# Altium schematic symbol library Sch_GB_lib.SchLib: 489 symbols (part 2 of 5)
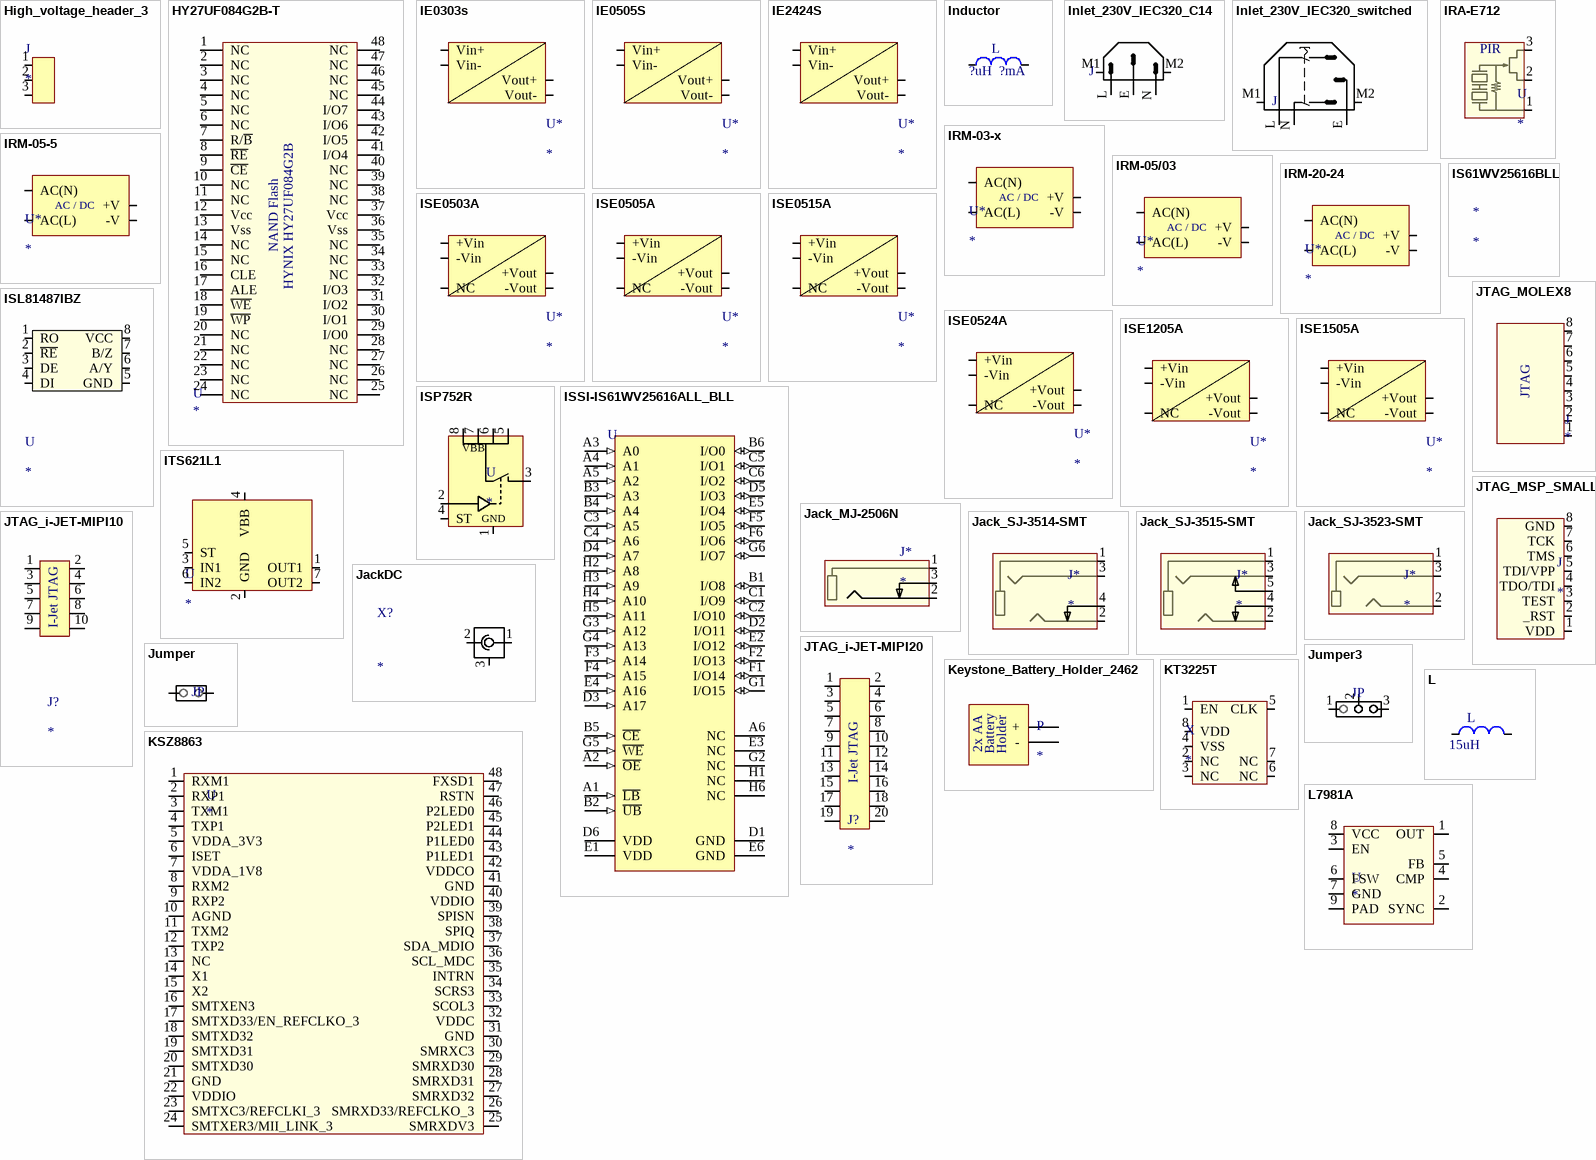
[diagram p18: symbols High_voltage_header_3 to L7981A]

## ITS621L1
designator U
Farnell ref: 1426200; Digikey ref: ITS621L1-ND
footprint PG_TO220_7
pins: 1 OUT1, 2 GND, 3 IN1, 4 VBB, 5 ST, 6 IN2, 7 OUT2

## Jack_MJ-2506N
designator J*
Digikey ref: CP-2506N-ND
footprint Jack_MJ-2506N (2.5mm AUDIO JACK-MONO)
pins: 1 +, 2 +, 3 +

## Jack_SJ-3514-SMT
designator J*
Digikey ref: CP1-3514SJCT-ND
footprint JACK_SJ-3515-SMT (CUI Inc Jack Stereo 3.5mm, black, 5 pos, switch integrated)
pins: 1 +, 2 +, 3 +, 4 +

## Jack_SJ-3515-SMT
designator J*
Digikey ref: CP1-3515SJCT-ND
footprint JACK_SJ-3515-SMT (CUI Inc Jack Stereo 3.5mm, black, 5 pos, switch integrated)
pins: 1 +, 2 +, 3 +, 4 +, 5 +

## Jack_SJ-3523-SMT
designator J*
Digikey ref: CP-3523SJCT-ND
footprint JACK_SJ-3523-SMT (CUI Inc Jack Stereo 3.5mm, black)
pins: 1 +, 2 +, 3 +

## JackDC
designator X?
Farnell ref: 1608728
footprint JackDCpcb
pins: 1 +, 2 -, 3 M

## JTAG_i-JET-MIPI10
designator J?
Farnell ref: 1667759; Digikey ref: SAM1161-05-ND
footprint FTSH-105-0x-x-DV (SAMTEC SMT micro Header pitch 1.27mm, 10 pins, 2 rows)
pins: 1 VTref, 2 SWDIO/TMS, 3 GND, 4 SWCLK/TCK, 5 GND, 6 SWO/TDO, 7 --, 8 TDI, 9 GND, 10 ~{RST}
text: I-Jet JTAG

## JTAG_i-JET-MIPI20
designator J?
Digikey ref: SAM1161-10-ND
footprint FTSH-110-0x-x-DV (SAMTEC SMT micro Header pitch 1.27mm, 20 pins, 2 rows)
pins: 1 VTref, 2 SWDIO/TMS, 3 GND, 4 SWCLK/TCK, 5 GND, 6 SWO/TDO, 7 --, 8 TDI, 9 GND, 10 ~{RST}, 11 ~{RST}, 12 ~{RST}, 13 ~{RST}, 14 ~{RST}, 15 ~{RST}, 16 ~{RST}, 17 ~{RST}, 18 ~{RST}, 19 ~{RST}, 20 ~{RST}
text: I-Jet JTAG

## JTAG_MOLEX8
designator J
Farnell ref: 1012258
footprint JTAG_MSP_SMALL_TROUGH_HOLE (mini JTAG, vertical soldering)
pins: 1, 2, 3, 4, 5, 6, 7, 8
text: JTAG

## JTAG_MSP_SMALL
designator J
MOLEX 53047-0810 Embase droite 8 voies; Farnell ref: 1012258
footprint JTAG_MSP_SMALL (place on the side of the board)
pins: 1 VDD, 2 _RST, 3 TEST, 4 TDO/TDI, 5 TDI/VPP, 6 TMS, 7 TCK, 8 GND

## Jumper
designator JP  (value not drawn)
Farnell ref: 1654800; Digikey ref: 609-2217-ND
footprint jumper2.54mm
footprint jumper2.54mm_solderedwire
pins: 1, 2

## Jumper3
designator JP  (value not drawn)
Farnell ref: 1654800; Digikey ref: 609-2217-ND
footprint jumper3_2.54mm (3 pins jumper)
pins: 1, 2, 3

## Keystone_Battery_Holder_2462
designator P
Digikey ref: 2462K-ND; Mouser ref: 534-2462; Farnell ref: 1702630
footprint Keystone_2462 (2xAA battery holder with through hole mounting pins)
pins: 1 -, 2 +
text: 2x AA; Battery; Holder

## KSZ8863
designator U
Digikey ref: 576-3577-ND; Farnell ref: 1864784
footprint LQFP48 (Thin QFP, 48-Leads, Body 7x7mm, Pitch 0.5mm, IPC Medium Density)
pins: 1 RXM1, 2 RXP1, 3 TXM1, 4 TXP1, 5 VDDA_3V3, 6 ISET, 7 VDDA_1V8, 8 RXM2, 9 RXP2, 10 AGND, 11 TXM2, 12 TXP2, 13 NC, 14 X1, 15 X2, 16 SMTXEN3, 17 SMTXD33/EN_REFCLKO_3, 18 SMTXD32, 19 SMTXD31, 20 SMTXD30, 21 GND, 22 VDDIO, 23 SMTXC3/REFCLKI_3, 24 SMTXER3/MII_LINK_3, 25 SMRXDV3, 26 SMRXD33/REFCLKO_3, 27 SMRXD32, 28 SMRXD31, 29 SMRXD30, 30 SMRXC3, 31 GND, 32 VDDC, 33 SCOL3, 34 SCRS3, 35 INTRN, 36 SCL_MDC, 37 SDA_MDIO, 38 SPIQ, 39 SPISN, 40 VDDIO, 41 GND, 42 VDDCO, 43 P1LED1, 44 P1LED0, 45 P2LED1, 46 P2LED0, 47 RSTN, 48 FXSD1

## KT3225T
designator X
Digikey ref: 1253-1030-1-ND; Farnell ref: *
footprint KT3225T (TCXO, case 3.2x2.5x1mm)
pins: 1 EN (in), 2 NC, 3 NC, 4 VSS, 5 CLK (out), 6 NC, 7 NC, 8 VDD

## L
designator L  value 15uH  (hidden comment: *)
Farnell ref: 0000000
footprint 1812 (3.2x4.5mm 1812 package)
footprint 0402 (SMD 0402 package, 0.6x1.5mm)
footprint 0603c (standard 0603 FP)
footprint 0805 (standard 0805 FP)
footprint 1206 (1206 1.6x3.2mm)
pins: 1, 2

## L7981A
designator U
Digikey ref: 497-10722-1-ND
footprint HSOP8 (SOIC, 8-Leads+PAD, Body 4.9x3.8mm, Pitch 1.27mm, IPC Medium Density)
pins: 1 OUT, 2 SYNC, 3 EN, 4 CMP, 5 FB, 6 FSW, 7 GND, 8 VCC, 9 PAD

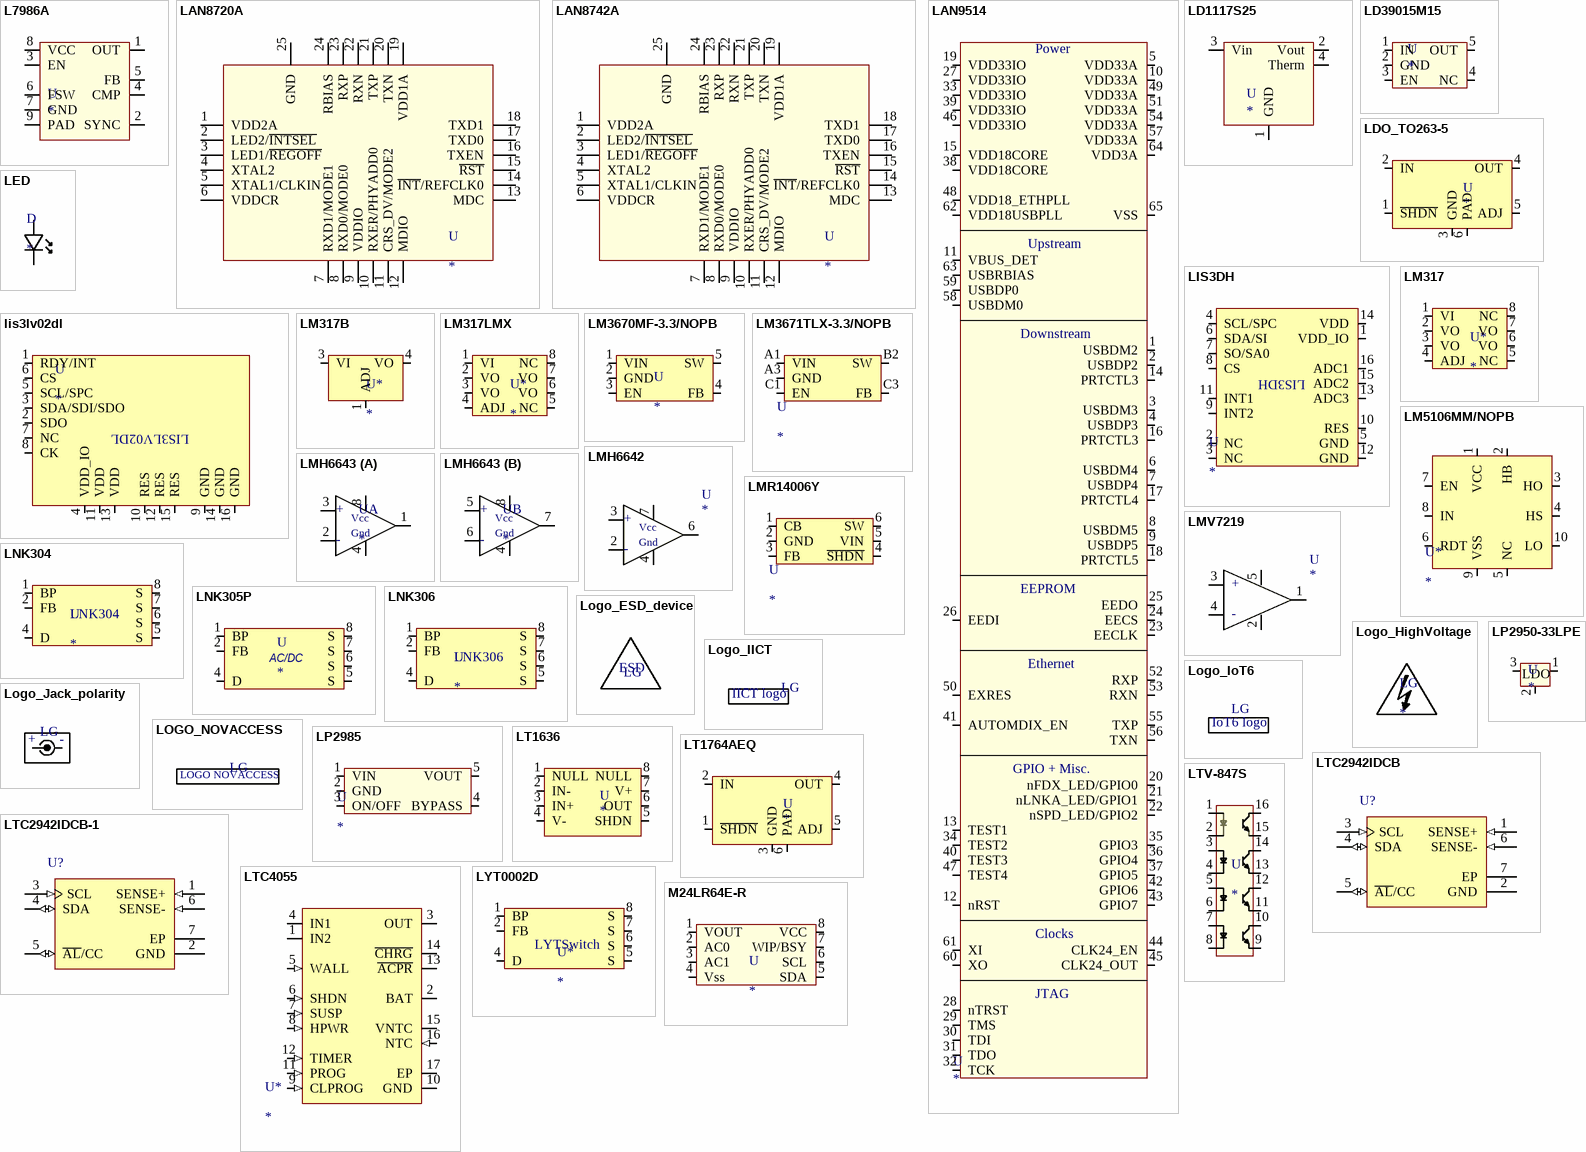
[diagram p5: symbols L7986A to M24LR64E-R]

## L7986A
designator U
Buck Switching Regulator IC Positive Adjustable 0.6V 1 Output 3A 8-SOIC, 40V; Manufacturer: STMicroelectronics; Manufacturer PartNum: L7986A; Digikey ref: 497-14791-5-ND
footprint HSOP8 (SOIC, 8-Leads+PAD, Body 4.9x3.8mm, Pitch 1.27mm, IPC Medium Density)
pins: 1 OUT, 2 SYNC, 3 EN, 4 CMP, 5 FB, 6 FSW, 7 GND, 8 VCC, 9 PAD

## LAN8720A
designator U
Digikey ref: 638-1080-ND; Farnell ref: 2292577
footprint QFN24_V (QFN 24 pins with thermal vias, 4x4mm, 0.5mm)
pins: 1 VDD2A (power), 2 LED2/~{INTSEL}, 3 LED1/~{REGOFF}, 4 XTAL2, 5 XTAL1/CLKIN, 6 VDDCR (power), 7 RXD1/MODE1, 8 RXD0/MODE0, 9 VDDIO, 10 RXER/PHYADD0, 11 CRS_DV/MODE2, 12 MDIO, 13 MDC, 14 ~{INT}/REFCLK0, 15 ~{RST}, 16 TXEN, 17 TXD0, 18 TXD1, 19 VDD1A (power), 20 TXN, 21 TXP, 22 RXN, 23 RXP, 24 RBIAS, 25 GND

## LAN8742A
designator U
Manufacturer: Microchip; Manufacturer PartNum: LAN8742A
footprint QFN24_V (QFN 24 pins with thermal vias, 4x4mm, 0.5mm)
pins: 1 VDD2A (power), 2 LED2/~{INTSEL}, 3 LED1/~{REGOFF}, 4 XTAL2, 5 XTAL1/CLKIN, 6 VDDCR (power), 7 RXD1/MODE1, 8 RXD0/MODE0, 9 VDDIO, 10 RXER/PHYADD0, 11 CRS_DV/MODE2, 12 MDIO, 13 MDC, 14 ~{INT}/REFCLK0, 15 ~{RST}, 16 TXEN, 17 TXD0, 18 TXD1, 19 VDD1A (power), 20 TXN, 21 TXP, 22 RXN, 23 RXP, 24 RBIAS, 25 GND

## LAN9514
designator U
Digikey ref: 638-1087-ND     NON STOCK; Mouser ref: 886-LAN9514-JZX; Farnell ref: No reference found
footprint QFN64 (QFN, 64-Leads, Body 9x9mm, Pitch 0.5mm, Thermal Pad 7.5x7.5mm, IPC High Density)
pins: 1 USBDM2, 2 USBDP2, 3 USBDM3, 4 USBDP3, 5 VDD33A, 6 USBDM4, 7 USBDP4, 8 USBDM5, 9 USBDP5, 10 VDD33A, 11 VBUS_DET, 12 nRST, 13 TEST1, 14 PRTCTL3, 15 VDD18CORE, 16 PRTCTL3, 17 PRTCTL4, 18 PRTCTL5, 19 VDD33IO, 20 nFDX_LED/GPIO0, 21 nLNKA_LED/GPIO1, 22 nSPD_LED/GPIO2, 23 EECLK, 24 EECS, 25 EEDO, 26 EEDI, 27 VDD33IO, 28 nTRST, 29 TMS, 30 TDI, 31 TDO, 32 TCK, 33 VDD33IO, 34 TEST2, 35 GPIO3, 36 GPIO4, 37 GPIO5, 38 VDD18CORE, 39 VDD33IO, 40 TEST3, 41 AUTOMDIX_EN, 42 GPIO6, 43 GPIO7, 44 CLK24_EN, 45 CLK24_OUT, 46 VDD33IO, 47 TEST4, 48 VDD18_ETHPLL, 49 VDD33A, 50 EXRES, 51 VDD33A, 52 RXP, 53 RXN, 54 VDD33A, 55 TXP, 56 TXN, 57 VDD33A, 58 USBDM0, 59 USBDP0, 60 XO, 61 XI, 62 VDD18USBPLL, 63 USBRBIAS, 64 VDD3A, 65 VSS
text: Power; Upstream; Downstream; EEPROM; Ethernet; GPIO + Misc.; Clocks; JTAG

## LD1117S25
designator U
Digikey ref: 497-7309-2-ND; Farnell ref: 1132000
footprint SOT223-4M (SOT223, 4-Leads, Body 6.5x3.5mm, Pitch 2.3mm, Lead Span 7mm, IPC Low Density)
pins: 1 GND, 2 Vout, 3 Vin, 4 Therm

## LD39015M15
designator U
Digikey ref: 497-6976-1-ND
footprint SOT23-5 (SOT23, 5 pins, pitch 0.95mm, case 3x1.6mm)
pins: 1 IN, 2 GND, 3 EN, 4 NC, 5 OUT

## LDO_TO263-5
designator U
LDO IC Positive, ADJ,  1.21..1.26 V ~ 20 V 3A D2PAK-5; Manufacturer PartNum: NCP59302DSADJR4G; Manufacturer: ON Semi; Cin,Cout: 47uF; Alternate P/N (preferred): Linear Technology LT1764AEQ#PBF; Alternate P/N (2): ST Micro  LD29300P2MTR; Vref: 1.240; Digikey ref: NCP59302DSADJR4GOSCT-ND
footprint D2PAK_5 (D2PAK TO-263-5)
pins: 1 ~{SHDN} "Positive Current Sense Input and Power Supply. Connect to the load/charger side of the sense resistor. VSENSE+ operating range is 2.7V to 5.5V.", 2 IN "Positive Current Sense Input and Power Supply. Connect to the load/charger side of the sense resistor. VSENSE+ operating range is 2.7V to 5.5V.", 3 GND "Positive Current Sense Input and Power Supply. Connect to the load/charger side of the sense resistor. VSENSE+ operating range is 2.7V to 5.5V.", 4 OUT "Positive Current Sense Input and Power Supply. Connect to the load/charger side of the sense resistor. VSENSE+ operating range is 2.7V to 5.5V.", 5 ADJ "Positive Current Sense Input and Power Supply. Connect to the load/charger side of the sense resistor. VSENSE+ operating range is 2.7V to 5.5V.", 6 PAD "Positive Current Sense Input and Power Supply. Connect to the load/charger side of the sense resistor. VSENSE+ operating range is 2.7V to 5.5V."

## LED
designator D
standard LED
footprint LED3mm
footprint LED5MM
pins: 1, 2

## LIS3DH
designator U
Digikey ref: 497-10613-1-ND; Farnell ref: 1872923
footprint 16-LGA (16-LGA ST MEMS inertial sensor case 3x3x1mm)
pins: 1 VDD_IO, 2 NC, 3 NC, 4 SCL/SPC, 5 GND, 6 SDA/SI, 7 SO/SA0, 8 CS, 9 INT2, 10 RES, 11 INT1, 12 GND, 13 ADC3, 14 VDD, 15 ADC2, 16 ADC1

## lis3lv02dl
designator U
LIS3LV02DL; Farnell ref: 1220902; price: 13.57 Euro/pce; datum: 21.05.2010
footprint LGA16 (LGA16 ST MEMS inertial sensor)
pins: 1 RDY/INT, 2 SDO, 3 SDA/SDI/SDO, 4 VDD_IO, 5 SCL/SPC, 6 CS, 7 NC, 8 CK, 9 GND, 10 RES, 11 VDD, 12 RES, 13 VDD, 14 GND, 15 RES, 16 GND

## LM317
designator U*
IC REG LIN POS ADJ 100MA 8SOIC; Manufacturer: Texas Instruments; Manufacturer PartNum: LM317LIDR; Digikey ref: 296-20678-1-ND; Manufacturer PN 2: ON Semi LM317LBDG
footprint soic8 (soic8 CMS 8 leads, pitch 1.27mm)
pins: 1 VI, 2 VO, 3 VO, 4 ADJ, 5 NC, 6 VO, 7 VO, 8 NC

## LM317B
designator U*
Digikey ref: LM317BD2TGOS-ND
footprint D2PAK (DPAK Single Guage)
pins: 1 ADJ, 3 VI, 4 VO

## LM317LMX
designator U*
Manufacturer: Texas Instruments; Manufacturer PartNum: LM317LMX/NOPB; Digikey ref: LM317LMX/NOPBCT-ND
footprint soic8 (soic8 CMS 8 leads, pitch 1.27mm)
pins: 1 VI, 2 VO, 3 VO, 4 ADJ, 5 NC, 6 VO, 7 VO, 8 NC

## LM3670MF-3.3/NOPB
designator U
Digikey ref: LM3670MF-3.3/NOPBCT-ND; Farnell ref: 1685757
footprint SOT23-5 (SOT23, 5 pins, pitch 0.95mm, case 3x1.6mm)
pins: 1 VIN, 2 GND, 3 EN, 4 FB, 5 SW

## LM3671TLX-3.3/NOPB
designator U
Farnell ref: *; Digikey ref: LM3671TLX-3.3/NOPBCT-ND
footprint DSBGA (Micro SMD, 5-Leads, Body 1.39x1.06mm, Pitch 0.5mm, NSC Recommended)
pins: A1 VIN, A3 GND, B2 SW, C1 EN, C3 FB

## LM5106MM/NOPB
designator U*
Digikey ref: LM5106MM/NOPBCT-ND
footprint VSSOP10 (VSSOP-10, case 3.1x3.1mm, pitch 0.5mm)
pins: 1 VCC, 2 HB, 3 HO, 4 HS, 5 NC, 6 RDT, 7 EN, 8 IN, 9 VSS, 10 LO

## LMH6642
designator U
Farnell ref: 9490167
footprint D008_L (8-Pin Small Outline Integrated Circuit 1.27 mm Pitch, IPC High Density)
pins: 2, 3, 4, 6, 7
text: +; Vcc; Gnd; -

## LMH6643
designator U
DUAL AOP, 130Mhz; Farnell ref: 1286941
part A pins: 1, 2, 3, 4, 8
part B pins: 4, 5, 6, 7, 8
part A text: +; Vcc; Gnd; -
part B text: +; Vcc; Gnd; -

## LMR14006Y
designator U
IC REG BUCK ADJ 0.6A 6SOT; Manufacturer: Texas Instruments; Manufacturer PartNum: LMR14006YDDCR; replacement part (passives adjustment needed): MPS MP2456GJ-P; Farnell ref: *; Digikey ref: 296-44319-1-ND
footprint SOT23-6 (SOT23, 6 leads, pitch 0.95, 1.55x2.9mm)
pins: 1 CB, 2 GND, 3 FB, 4 ~{SHDN}, 5 VIN, 6 SW

## LMV7219
designator U
Farnell ref: 9778764RL
footprint SOT23-5 (SOT23, 5 pins, pitch 0.95mm, case 3x1.6mm)
pins: 1, 2, 3, 4, 5
text: +; -

## LNK304
designator U
IC OFFLINE SWIT OCP 8SOP; Manufacturer PartNum: LNK304DG-TL; Manufacturer: Power Integrations; Digikey ref: 596-1237-1-ND
footprint SO-8CL (SOIC, 8-Leads, Body 4.9x3.9mm, Pitch 1.27mm, IPC Low Density)
pins: 1 BP, 2 FB, 4 D, 5 S, 6 S, 7 S, 8 S

## LNK305P
designator U
prix: 1.42 Euro/1pce; Farnell ref: 1448223
footprint DIL8 (DIP; 8 Leads; Row Spacing 7.62 mm; Pitch 2.54 mm)
pins: 1 BP, 2 FB, 4 D, 5 S, 6 S, 7 S, 8 S
text: AC/DC

## LNK306
designator U
Prix: 1.51 Euro/1pce; Farnell ref: 1448229
footprint SO-8C_L (Footprint not found)
pins: 1 BP, 2 FB, 4 D, 5 S, 6 S, 7 S, 8 S

## Logo_ESD_device
designator LG  (value not drawn)  (no BOM)
footprint LOGO_ESD_DEV (don't touch device, ESD risk)
text: ESD

## Logo_HighVoltage
designator LG  (no BOM)
footprint logo_hv2
footprint logo_hv1

## Logo_IICT
designator LG  (value not drawn)  (no BOM)
footprint LOGO_IICT (IICT logo)
text: IICT logo

## Logo_IoT6
designator LG  (value not drawn)  (no BOM)
footprint LOGO_IOT6
text: IoT6 logo

## Logo_Jack_polarity
designator LG  (value not drawn)  (no BOM)
footprint LOGO_JACK_INPUT (JACK input polarity)
footprint LOGO_JACK_INPUT_copper
text: +; -

## LOGO_NOVACCESS
designator LG  (value not drawn)  (no BOM)
footprint LOGO_NOVACCESS
footprint LOGO_NOVACCESS_2
footprint LOGO_NOVACCESS_TOP
footprint LOGO_NOVACCESS_TOP_2
text: LOGO NOVACCESS

## LP2950-33LPE
designator U
Farnell ref: 1755063; Digikey ref: 296-31455-1-ND
footprint TO92 (TO-92 3 pin DIP vertical package)
pins: 1 OUT, 2 GND, 3 IN
text: LDO

## LP2985
designator U
IC REG LDO 10V 0.15A SOT23-5; Manufacturer: Texas Instruments; Manufacturer PartNum: LP2985-10DBVR; Rated volatage: 6V; Digikey ref: 296-24263-1-ND; Farnell ref: 1578407
footprint SOT23-5
pins: 1 VIN, 2 GND, 3 ON/OFF, 4 BYPASS, 5 VOUT

## LT1636
designator U
IC OPAMP GP 220KHZ RRO 8SO SHTDN; Manufacturer PartNum: LT1636CS8#PBF; Manufacturer: Linear Technology; Digikey ref: LT1636CS8#PBF-ND
footprint soic8 (soic8 CMS 8 leads, pitch 1.27mm)
pins: 1 NULL "Positive Current Sense Input and Power Supply. Connect to the load/charger side of the sense resistor. VSENSE+ operating range is 2.7V to 5.5V.", 2 IN- "Positive Current Sense Input and Power Supply. Connect to the load/charger side of the sense resistor. VSENSE+ operating range is 2.7V to 5.5V.", 3 IN+ "Positive Current Sense Input and Power Supply. Connect to the load/charger side of the sense resistor. VSENSE+ operating range is 2.7V to 5.5V.", 4 V- "Positive Current Sense Input and Power Supply. Connect to the load/charger side of the sense resistor. VSENSE+ operating range is 2.7V to 5.5V.", 5 SHDN "Positive Current Sense Input and Power Supply. Connect to the load/charger side of the sense resistor. VSENSE+ operating range is 2.7V to 5.5V.", 6 OUT "Positive Current Sense Input and Power Supply. Connect to the load/charger side of the sense resistor. VSENSE+ operating range is 2.7V to 5.5V.", 7 V+ "Positive Current Sense Input and Power Supply. Connect to the load/charger side of the sense resistor. VSENSE+ operating range is 2.7V to 5.5V.", 8 NULL "Positive Current Sense Input and Power Supply. Connect to the load/charger side of the sense resistor. VSENSE+ operating range is 2.7V to 5.5V."

## LT1764AEQ
designator U
Linear Voltage Regulator IC Positive Adjustable Output 1.21 V ~ 20 V 3A 5-DDPAK; Manufacturer PartNum: LT1764AEQ#PBF; Manufacturer: Linear Technology; Cin,Cout: 10uF; Digikey ref: LT1764AEQ#PBF-ND
footprint D2PAK_5 (D2PAK TO-263-5)
pins: 1 ~{SHDN} "Positive Current Sense Input and Power Supply. Connect to the load/charger side of the sense resistor. VSENSE+ operating range is 2.7V to 5.5V.", 2 IN "Positive Current Sense Input and Power Supply. Connect to the load/charger side of the sense resistor. VSENSE+ operating range is 2.7V to 5.5V.", 3 GND "Positive Current Sense Input and Power Supply. Connect to the load/charger side of the sense resistor. VSENSE+ operating range is 2.7V to 5.5V.", 4 OUT "Positive Current Sense Input and Power Supply. Connect to the load/charger side of the sense resistor. VSENSE+ operating range is 2.7V to 5.5V.", 5 ADJ "Positive Current Sense Input and Power Supply. Connect to the load/charger side of the sense resistor. VSENSE+ operating range is 2.7V to 5.5V.", 6 PAD "Positive Current Sense Input and Power Supply. Connect to the load/charger side of the sense resistor. VSENSE+ operating range is 2.7V to 5.5V."

## LTC2942IDCB
designator U?
Digikey ref: LTC2942IDCB#TRMPBFCT-ND
footprint LT-DCB-6_V (SON, 6-Leads, Body 3x2mm, Pitch 0.5mm, Thermal Pad 1.65x1.35mm)
pins: 1 SENSE+ (in) "Positive Current Sense Input and Power Supply. Connect to the load/charger side of the sense resistor. VSENSE+ operating range is 2.7V to 5.5V.", 2 GND (power) "Device Ground. Connect directly to the negative battery terminal.", 3 SCL (in) "Serial Bus Clock Input.", 4 SDA (io) "Serial Bus Data Input and Output.", 5 ~{AL}/CC (io) "Alert Output or Charge Complete Input.", 6 SENSE- (in) "Negative Current Sense Input.", 7 EP "Do Not Connect."

## LTC2942IDCB-1
designator U?
Digikey ref: LTC2942IDCB-1#TRMPBFCT-ND
footprint LT-DCB-6_V (SON, 6-Leads, Body 3x2mm, Pitch 0.5mm, Thermal Pad 1.65x1.35mm)
pins: 1 SENSE+ (in) "Positive Current Sense Input and Power Supply. Connect to the load/charger side of the sense resistor. VSENSE+ operating range is 2.7V to 5.5V.", 2 GND (power) "Device Ground. Connect directly to the negative battery terminal.", 3 SCL (in) "Serial Bus Clock Input.", 4 SDA (io) "Serial Bus Data Input and Output.", 5 ~{AL}/CC (io) "Alert Output or Charge Complete Input.", 6 SENSE- (in) "Negative Current Sense Input.", 7 EP "Do Not Connect."

## LTC4055
designator U*
Digikey ref: LTC4055EUF#PBF-ND; Farnell ref: *
footprint QFN16_N (QFN, 16-Leads, Body 4x4mm, Pitch 0.65mm, Thermal Pad 2.16x2.16mm, IPC Medium Density)
pins: 1 IN2 (power) "Input Supply. Connect to USB supply, VBUS. Used as main supply while connected to USB VBUS for power control to a USB device. Input current is limited to either 20% or 100% of the current programmed by the CLPROG pin as (See Datasheet)", 2 BAT (power) "Connect to a single-cell Li-Ion battery. Used as an output when charging the battery and as an input when supplying power to OUT. When the OUT pin potential drops below the BAT pin potential, an ideal diode function connects (See Datasheet)", 3 OUT (power) "Voltage Output. Used to provide controlled power to a USB device from either USB VBUS (IN1/IN2) or the battery (BAT) when the USB is not present. Can also be used as an input for battery charging when the USB is not present (See Datasheet)", 4 IN1 (power) "Input Supply. Connect to USB supply, VBUS. Used as main supply while connected to USB VBUS for power control to a USB device. Input current is limited to either 20% or 100% of the current programmed by the CLPROG pin as (See Datasheet)", 5 WALL (in) "Wall Adapter Present Input. Pulling this pin above 1V will disable charging from IN1/IN2 and disconnect the power path from IN1/IN2 to OUT. The A\C\P\R\ pin will also be pulled low to indicate that a wall adapter has been (See Datasheet)", 6 SHDN (in) "Shutdown Input. Pulling this pin greater than 1.2V will disable the entire part and place it in a low supply current mode of operation. All power paths will be disabled. A weak pull-down current is internally applied to this (See Datasheet)", 7 SUSP (in) "Suspend Mode Input. Pulling this pin above 1.2V will disable charging from IN1/IN2 and disconnect the power path from IN1/IN2 to OUT. The supply current will be reduced to comply with the USB specifi cation for Suspend mode. (See Datasheet)", 8 HPWR (in) "High Power Select. Used to control the amount of current drawn from the USB port. A voltage greater than 1.2V on the pin will set the current limit to 100% of the current programmed by the CLPROG pin and 100% of the charge (See Datasheet)", 9 CLPROG (in) "Current Limit Program. Connecting a resistor, RCLPROG to ground, programs the input to output current limit.", 10 GND (power) "Ground.", 11 PROG (in) "Charge Current Program. Connecting a resistor, RPROG, to ground programs the battery charge current.", 12 TIMER (in) "Timer Capacitor. Placing a capacitor CTIMER to GND sets the timer period.", 13 ~{ACPR} (oc) "Wall Adapter Present Output. Active low open-drain output pin. A low on this pin indicates that the wall adapter input comparator has had its input pulled above the input threshold and power is present on IN1/IN2 or OUT (i.e.(See Datasheet)", 14 ~{CHRG} (hiz) "Open-Drain Charge Status Output. When the battery is being charged, the C\H\R\G\ pin is pulled low by an internal N-channel MOSFET. When the timer runs out or the input supply or output supply is removed, the C\H\R\G\ pin is (See Datasheet)", 15 VNTC "Output Bias Voltage for NTC. A resistor from this pin to the NTC pin will set up the bias for an NTC thermistor.", 16 NTC (in) "Input to the NTC Thermistor Monitoring Circuits. Under normal operation, tie a thermistor from the NTC pin to ground and a resistor of equal value from NTC to VNTC. When the voltage on this pin is above 0.74 ?VVNTC (Cold(See Datasheet)", 17 EP (power) "Ground. The Exposed Pad must be soldered to a good thermally conductive PCB ground."

## LTV-847S
designator U
Digikey ref: 160-1371-5-ND
footprint DIL-16-SMD_BUTTERFLY (Optocoupler, SMD package, case 6.5x20x3.5mm)
pins: 1 IA1, 2 IB1, 3 IA2, 4 IB2, 5 IA3, 6 IB3, 7 IA4, 8 IB4, 9 E4, 10 C4, 11 E3, 12 C3, 13 E2, 14 C2, 15 E1, 16 C1

## LYT0002D
designator U*
C Pilotes de DEL Commutateur autonome CA CC 146mA 8-SO; Manufacturer: Power Integrations; Manufacturer PartNum: LYT0002D; Digikey ref: 596-1458-ND
footprint SO-8CL (SOIC, 8-Leads, Body 4.9x3.9mm, Pitch 1.27mm, IPC Low Density)
pins: 1 BP, 2 FB, 4 D, 5 S, 6 S, 7 S, 8 S
text: LYTSwitch

## M24LR64E-R
designator U
Farnell ref: 2291184
footprint TSSOP-8 (TSOP, 8-Leads, Body 3x4.4mm, Pitch 0.65mm, IPC Medium Density)
pins: 1 VOUT, 2 AC0, 3 AC1, 4 Vss, 5 SDA, 6 SCL, 7 WIP/BSY, 8 VCC

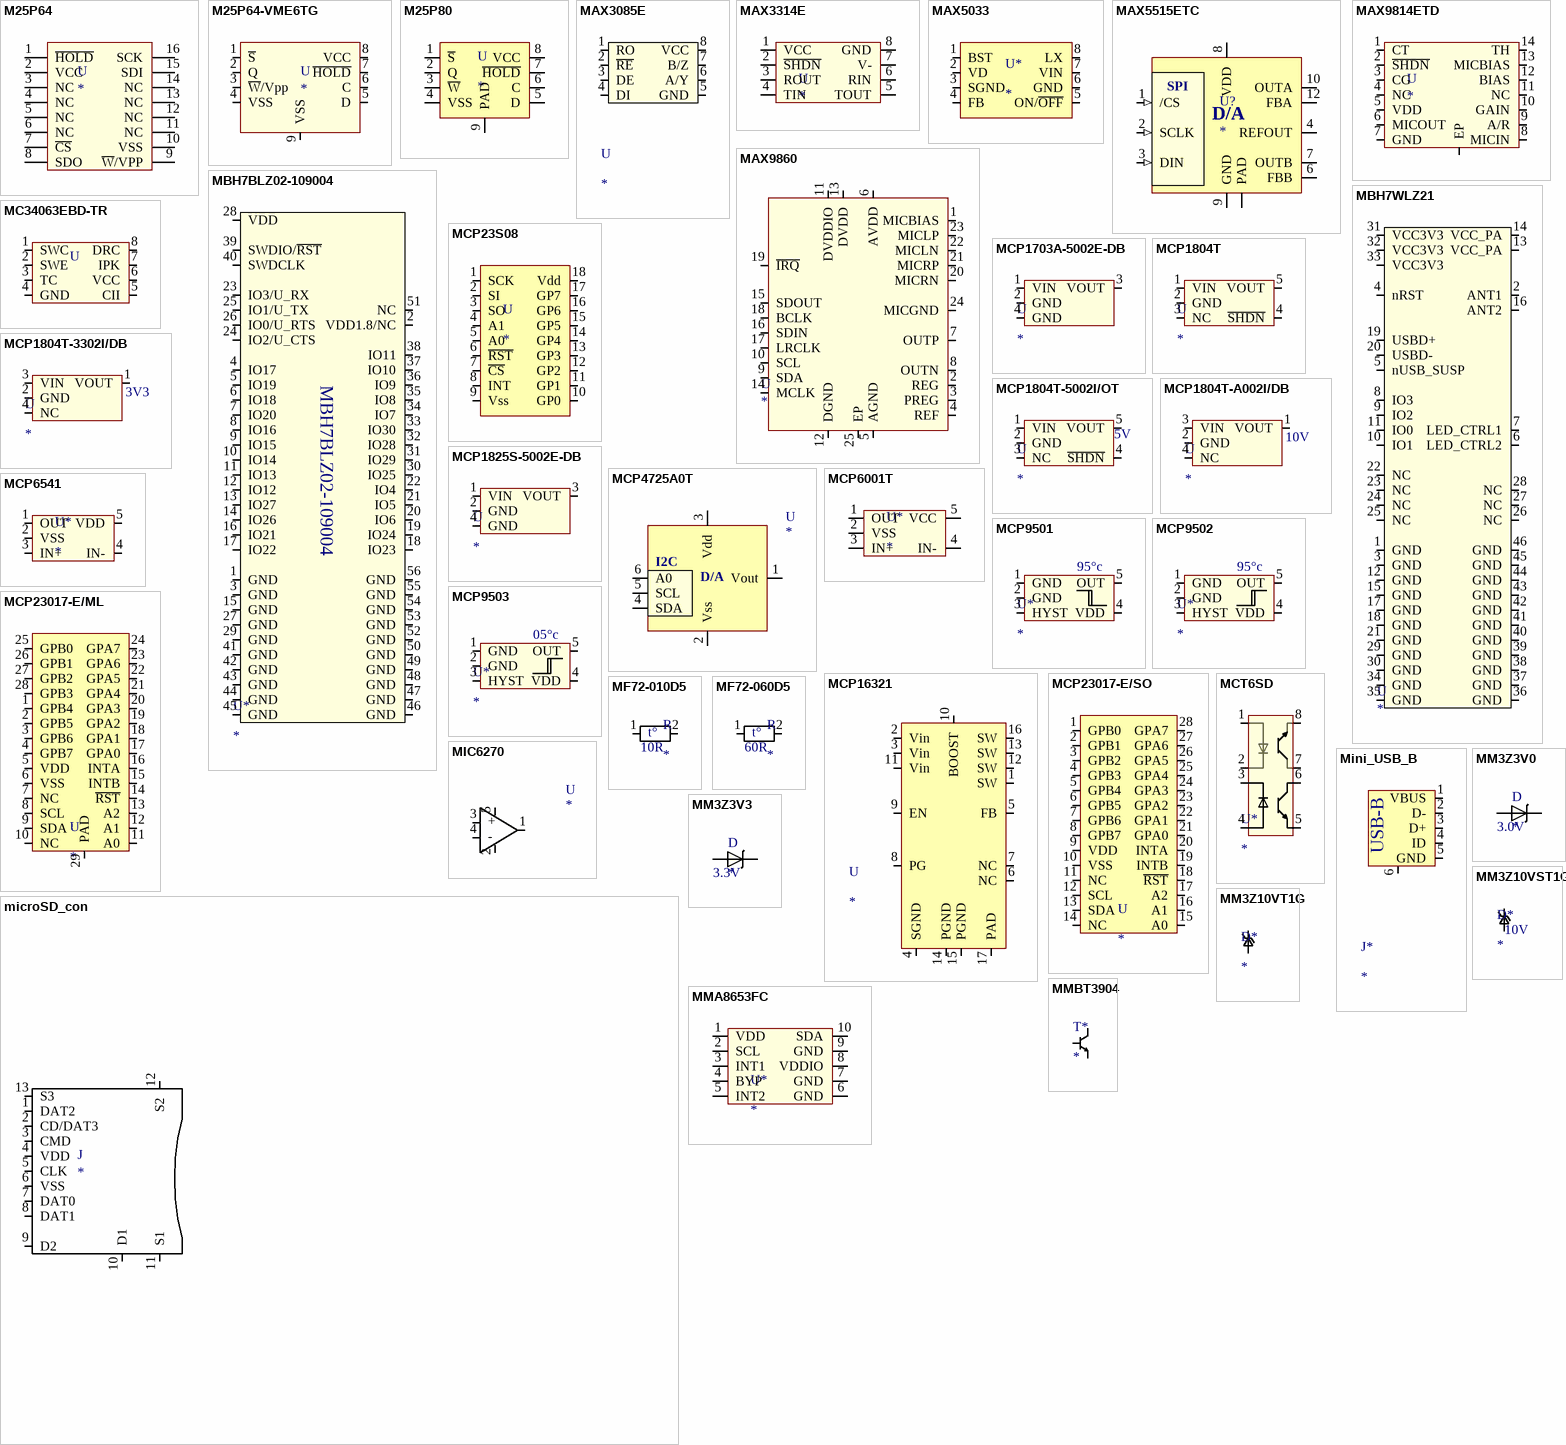
[diagram p6: symbols M25P64 to MMBT3904]

## M25P64
designator U
Farnell ref: 1703285; Farnell ref substitute: 1972446
footprint SO16 (SO16, case 10.3x7.5mm, pitch 1.27mm, 16 leads)
pins: 1 ~{HOLD}, 2 VCC, 3 NC, 4 NC, 5 NC, 6 NC, 7 ~{CS}, 8 SDO, 9 ~{W}/VPP, 10 VSS, 11 NC, 12 NC, 13 NC, 14 NC, 15 SDI, 16 SCK

## M25P64-VME6TG
designator U
Digikey ref: M25P64-VME6TGCT-ND
footprint VDFPN8 (8-Lead Very thin Dual Flat Package No lead, 8x6mm, pitch 1.27mm)
pins: 1 ~{S}, 2 Q, 3 ~{W}/Vpp, 4 VSS, 5 D, 6 C, 7 ~{HOLD}, 8 VCC, 9 VSS

## M25P80
designator U
8MB, Low Voltage Serial Flash Memory with 75 MHz SPI Bus Interface; Farnell ref: *; Digikey ref: M25P80-VMP6TGCT-ND
footprint VDFPN8 (8-Lead Very thin Dual Flat Package No lead, 8x6mm, pitch 1.27mm)
pins: 1 ~{S}, 2 Q, 3 ~{W}, 4 VSS, 5 D, 6 C, 7 ~{HOLD}, 8 VCC, 9 PAD

## MAX3085E
designator U
1/1 Transceiver Half RS422, RS485 8-SOIC; Manufacturer: maxim; Manufacturer PartNum: MAX3085ECSA+; Digikey ref: MAX3085ECSA+-ND
footprint soic8 (soic8 CMS 8 leads, pitch 1.27mm)
pins: 1 RO, 2 ~{RE}, 3 DE, 4 DI, 5 GND, 6 A/Y, 7 B/Z, 8 VCC

## MAX3314E
designator U
Digikey ref: MAX3314ECSA+-ND
footprint SO8_N (SOIC, 8-Leads, Body 4.9x3.8mm, Pitch 1.27mm, IPC Medium Density)
pins: 1 VCC, 2 ~{SHDN}, 3 ROUT, 4 TIN, 5 TOUT, 6 RIN, 7 V-, 8 GND

## MAX5033
designator U*
Farnell ref: *; Digikey ref: MAX5033BUSA+-ND; status: *
footprint SO8_N (SOIC, 8-Leads, Body 4.9x3.8mm, Pitch 1.27mm, IPC Medium Density)
pins: 1 BST, 2 VD, 3 SGND, 4 FB, 5 ON/~{OFF}, 6 GND, 7 VIN, 8 LX

## MAX5515ETC
designator U?
MAX5515ETC+: dual 8bit DAC, 4x4mmQFN, SPI dig. adj. Ref; Farnell ref: 1552862
footprint QFN12_MEDIUM_DENSITY (QFN, 12-Leads, Body 4x4mm, Pitch 0.8mm, IPC Medium Density)
pins: 1 /CS (in), 2 SCLK (in), 3 DIN (in), 4 REFOUT, 6 FBB, 7 OUTB, 8 VDD, 9 GND, 10 OUTA, 12 FBA, 13 PAD
text: SPI; D/A

## MAX9814ETD
designator U
Microphone Amplifier with AGC and  Low-Noise Microphone Bias; Digikey ref: MAX9814ETD+TCT-ND
footprint TDFN14
pins: 1 CT, 2 ~{SHDN}, 3 CG, 4 NC, 5 VDD, 6 MICOUT, 7 GND, 8 MICIN, 9 A/R, 10 GAIN, 11 NC, 12 BIAS, 13 MICBIAS, 14 TH, 15 EP

## MAX9860
designator U
IC CODEC MONO AUD 16BIT 24TQFN; Manufacturer: Maxim Integrated; Manufacturer PartNum: MAX9860ETG+T; Digikey ref: MAX9860ETG+TCT-ND
footprint QFN24 (QFN 24 pins, 4x4mm, 0.5mm)
pins: 1 MICBIAS, 2 REG, 3 PREG, 4 REF, 5 AGND, 6 AVDD, 7 OUTP, 8 OUTN, 9 SDA, 10 SCL, 11 DVDDIO, 12 DGND, 13 DVDD, 14 MCLK, 15 SDOUT, 16 SDIN, 17 LRCLK, 18 BCLK, 19 ~{IRQ}, 20 MICRN, 21 MICRP, 22 MICLN, 23 MICLP, 24 MICGND, 25 EP

## MBH7BLZ02-109004
designator U*
Rutronik ref: BTOOTH1240; Mouser ref: 817-MBH7BLZ02-109004
footprint MBH7BLZ02-109004 (Fujitsu BLE module, onboard antenna)
pins: 1 GND, 2 VDD1.8/NC, 3 GND, 4 IO17, 5 IO19, 6 IO18, 7 IO20, 8 IO16, 9 IO15, 10 IO14, 11 IO13, 12 IO12, 13 IO27, 14 IO26, 15 GND, 16 IO21, 17 IO22, 18 IO23, 19 IO24, 20 IO6, 21 IO5, 22 IO4, 23 IO3/U_RX, 24 IO2/U_CTS, 25 IO1/U_TX, 26 IO0/U_RTS, 27 GND, 28 VDD, 29 GND, 30 IO25, 31 IO29, 32 IO28, 33 IO30, 34 IO7, 35 IO8, 36 IO9, 37 IO10, 38 IO11, 39 SWDIO/~{RST}, 40 SWDCLK, 41 GND, 42 GND, 43 GND, 44 GND, 45 GND, 46 GND, 47 GND, 48 GND, 49 GND, 50 GND, 51 NC, 52 GND, 53 GND, 54 GND, 55 GND, 56 GND

## MBH7WLZ21
designator U
Manufacturer: Fujitsu
footprint MBH7WLZ21_SMT (Wireless LAN module, USB2.0, 18.8x14.7x2.5mm case, 46pin)
pins: 1 GND, 2 ANT1, 3 GND, 4 nRST, 5 nUSB_SUSP, 6 LED_CTRL2, 7 LED_CTRL1, 8 IO3, 9 IO2, 10 IO1, 11 IO0, 12 GND, 13 VCC_PA, 14 VCC_PA, 15 GND, 16 ANT2, 17 GND, 18 GND, 19 USBD+, 20 USBD-, 21 GND, 22 NC, 23 NC, 24 NC, 25 NC, 26 NC, 27 NC, 28 NC, 29 GND, 30 GND, 31 VCC3V3, 32 VCC3V3, 33 VCC3V3, 34 GND, 35 GND, 36 GND, 37 GND, 38 GND, 39 GND, 40 GND, 41 GND, 42 GND, 43 GND, 44 GND, 45 GND, 46 GND

## MC34063EBD-TR
designator U  (value not drawn)
IC REG BUCK BOOST INV ADJ 8SOIC; Manufacturer PartNum: MC34063EBD-TR; Manufacturer: STMicroelectronics; Replacement part(s): MC33063ADR (TI, ON Semi, ST) or better (automotive) MC33063AQDRQ1 (TI); Digikey ref: 497-7851-1-ND
footprint soic8 (soic8 CMS 8 leads, pitch 1.27mm)
pins: 1 SWC, 2 SWE, 3 TC, 4 GND, 5 CII, 6 VCC, 7 IPK, 8 DRC

## MCP23S08
designator U
SPI 8 IO expander; Farnell ref: 1332092
footprint SOIC18 (low density SOIC18, pitch 1.27mm, case 7.5x11.5mm)
pins: 1 SCK, 2 SI, 3 SO, 4 A1, 5 A0, 6 ~{RST}, 7 ~{CS}, 8 INT, 9 Vss, 10 GP0, 11 GP1, 12 GP2, 13 GP3, 14 GP4, 15 GP5, 16 GP6, 17 GP7, 18 Vdd

## MCP1703A-5002E-DB
designator U
Rated voltage: 16V; Digikey ref: MCP1703A-5002E/DB-ND; Farnell ref: 2113889
footprint SOT223-4M (SOT223, 4-Leads, Body 6.5x3.5mm, Pitch 2.3mm, Lead Span 7mm, IPC Low Density)
pins: 1 VIN, 2 GND, 3 VOUT, 4 GND

## MCP1804T
designator U
IC REG LDO 10V 0.15A SOT23-5; Manufacturer PartNum: MCP1804T-A002I/OT; Manufacturer: Microchip; Rated volatage: 6V; Digikey ref: MCP1804T-A002I/OTCT-ND
footprint sot23-5
pins: 1 VIN, 2 GND, 3 NC, 4 ~{SHDN}, 5 VOUT

## MCP1804T-3302I/DB
designator U  Output voltage: 3V3
IC REG LDO 3.3V 0.15A SOT223-3; Manufacturer PartNum: MCP1804T-3302I/DB; Manufacturer: Microchip; Digikey ref: MCP1804T-3302I/DBCT-ND
footprint SOT223-4M (SOT223, 4-Leads, Body 6.5x3.5mm, Pitch 2.3mm, Lead Span 7mm, IPC Low Density)
pins: 1 VOUT, 2 GND, 3 VIN, 4 NC

## MCP1804T-5002I/OT
designator U  Rated volatage: 5V
IC REG LDO 5V 0.15A SOT23-5; Manufacturer PartNum: MCP1804T-5002I/OT; Manufacturer: Microchip; Digikey ref: MCP1804T-5002I/OTCT-ND
footprint sot23-5
pins: 1 VIN, 2 GND, 3 NC, 4 ~{SHDN}, 5 VOUT

## MCP1804T-A002I/DB
designator U  Output voltage: 10V
IC REG LDO 10V 0.15A SOT223-3; Manufacturer PartNum: MCP1804T-A002I/DB; Manufacturer: Microchip; Digikey ref: MCP1804T-A002I/DBCT-ND
footprint SOT223-4M (SOT223, 4-Leads, Body 6.5x3.5mm, Pitch 2.3mm, Lead Span 7mm, IPC Low Density)
pins: 1 VOUT, 2 GND, 3 VIN, 4 NC

## MCP1825S-5002E-DB
designator U
Rated volatage: 6V; Digikey ref: MCP1825S-5002E/DB-ND; Farnell ref: 1578407
footprint SOT223-4M (SOT223, 4-Leads, Body 6.5x3.5mm, Pitch 2.3mm, Lead Span 7mm, IPC Low Density)
pins: 1 VIN, 2 GND, 3 VOUT, 4 GND

## MCP4725A0T
designator U
Farnell ref: 1578449
footprint SOT23-6 (SOT-457/SC-74; 6 Leads; Body 3.1 x 3.2 mm, inc. leads (LxW max))
pins: 1 Vout, 2 Vss, 3 Vdd, 4 SDA, 5 SCL, 6 A0
text: I2C; D/A

## MCP6001T
designator U*
Digikey ref: MCP6001T-I/OTCT-ND; Farnell ref: 4974992
footprint SOT23-5 (SOT23, 5 pins, pitch 0.95mm, case 3x1.6mm)
pins: 1 OUT, 2 VSS, 3 IN+, 4 IN-, 5 VCC

## MCP6541
designator U*
IC COMP PUSHPLL 1.6V SGL; Manufacturer: Microchip; Manufacturer PartNum: MCP6541T-I/OT; Digikey ref: MCP6541T-I/OTCT-ND
footprint SOT23-5 (SOT23, 5 pins, pitch 0.95mm, case 3x1.6mm)
pins: 1 OUT, 2 VSS, 3 IN+, 4 IN-, 5 VDD

## MCP9501
designator U*  TSET: 95°c
IC TEMP SWITCH PROGR OD SOT23-5; Manufacturer PartNum: MCP9501PT-095E/OT; Manufacturer: Microchip; Digikey ref: MCP9501PT-095E/OTCT-ND
footprint SOT23-5
pins: 1 GND, 2 GND, 3 HYST, 4 VDD, 5 OUT (oc)

## MCP9502
designator U*  TSET: 95°c
IC TEMP SWITCH PROGR P-P SOT23-5; Manufacturer PartNum: MCP9502PT-095E/OT; Manufacturer: Microchip; Digikey ref: MCP9502PT-095E/OTCT-ND
footprint SOT23-5
pins: 1 GND, 2 GND, 3 HYST, 4 VDD, 5 OUT (out)

## MCP9503
designator U*  TSET: 05°c
IC TEMP SWITCH PROGR OD SOT23-5; Manufacturer PartNum: MCP9503PT-005E/OT; Manufacturer: Microchip; Digikey ref: MCP9503PT-005E/OTCT-ND
footprint SOT23-5
pins: 1 GND, 2 GND, 3 HYST, 4 VDD, 5 OUT (oc)

## MCP16321
designator U
Digikey ref: MCP16321T-330E/NGCT-ND; Farnell ref: *
footprint QFN16 (QFN16, case 3x3x1mm, pitch 0.5mm)
pins: 1 SW, 2 Vin, 3 Vin, 4 SGND, 5 FB, 6 NC, 7 NC, 8 PG, 9 EN, 10 BOOST, 11 Vin, 12 SW, 13 SW, 14 PGND, 15 PGND, 16 SW, 17 PAD

## MCP23017-E/ML
designator U
I2C IO expander 16 GPIOs; Digikey ref: MCP23017-E/ML-ND
footprint QFN28 (QFN, 28-Leads, Body 6x6mm, Pitch 0.65mm, Thermal Pad 4.2x4.2mm, IPC Medium Density)
pins: 1 GPB4, 2 GPB5, 3 GPB6, 4 GPB7, 5 VDD, 6 VSS, 7 NC, 8 SCL, 9 SDA, 10 NC, 11 A0, 12 A1, 13 A2, 14 ~{RST}, 15 INTB, 16 INTA, 17 GPA0, 18 GPA1, 19 GPA2, 20 GPA3, 21 GPA4, 22 GPA5, 23 GPA6, 24 GPA7, 25 GPB0, 26 GPB1, 27 GPB2, 28 GPB3, 29 PAD

## MCP23017-E/SO
designator U
I2C IO expander 16 GPIOs; Farnell ref: 1332087; Digikey ref: MCP23017-E/SO-ND
footprint SOIC28 (low density SOIC28, pitch 1.27mm, case 7.5x17.9mm)
pins: 1 GPB0, 2 GPB1, 3 GPB2, 4 GPB3, 5 GPB4, 6 GPB5, 7 GPB6, 8 GPB7, 9 VDD, 10 VSS, 11 NC, 12 SCL, 13 SDA, 14 NC, 15 A0, 16 A1, 17 A2, 18 ~{RST}, 19 INTB, 20 INTA, 21 GPA0, 22 GPA1, 23 GPA2, 24 GPA3, 25 GPA4, 26 GPA5, 27 GPA6, 28 GPA7

## MCT6SD
designator U*
Digikey ref: MCT6SDCT-ND; Farnell ref: 2323142*(package?!?)
footprint DIL8_SMD (DIL8, pitch 2.54mm, smd, "butterfly" edition)
pins: 1 A1, 2 Ca1, 3 Ca2, 4 A2, 5 E2, 6 C2, 7 C1, 8 E1

## MF72-010D5
designator R  Value@25°c: 10R
Digikey ref: 317-1145-ND
footprint MF72-010D5 (Power NTC Thermistor for Inrush current suppression)
pins: 1, 2
text: t°

## MF72-060D5
designator R  Value@25°c: 60R
Manufacturer: Cantherm; Manufacturer PartNum: MF72-060D5; Digikey ref: 317-1146-ND
footprint MF72-010D5 (Power NTC Thermistor for Inrush current suppression)
pins: 1, 2
text: t°

## MIC6270
designator U
IC COMPARATOR PREC 2-36V SOT23-5; Manufacturer partNum: MIC6270YM5-TR; Manufacturer: Microchip; VCCMax: 36V; Digikey ref: 576-1315-1-ND
footprint SOT23-5 (SOT23, 5 pins, pitch 0.95mm, case 3x1.6mm)
pins: 1, 2, 3, 4, 5
text: +; -

## microSD_con
designator J
Digikey ref: HR1964TR-ND
footprint microSD_DM3AT (microSD connector, Push-Push, Top mount, with card detect)
pins: 1 DAT2, 2 CD/DAT3, 3 CMD, 4 VDD, 5 CLK, 6 VSS, 7 DAT0, 8 DAT1, 9 D2, 10 D1, 11 S1, 12 S2, 13 S3

## Mini_USB_B
designator J*
Digikey ref: WM5461CT-ND; Farnell ref: 1125348
footprint MINI_USB
pins: 1 VBUS, 2 D-, 3 D+, 4 ID, 5 GND, 6 shield
text: USB-B

## MM3Z3V0
designator D  Vz: 3.0V
DIODE ZENER 3.0V 300MW SOD323; Manufacturer PartNum: MM3Z3V0T1G; Manufacturer: ON Semi; Digikey ref: MM3Z3V0T1GOSCT-ND
footprint SOD323 (SOD323F 1.8x1.35mm, total legth 2.7mm, lead width 0.4mm)
pins: 1, 2

## MM3Z3V3
designator D  Vz: 3.3V
DIODE ZENER 3.3V 300MW SOD323; Manufacturer PartNum: MM3Z3V3T1G; Manufacturer: ON Semi; Digikey ref: MM3Z3V3T1GOSCT-ND
footprint SOD323 (SOD323F 1.8x1.35mm, total legth 2.7mm, lead width 0.4mm)
pins: 1, 2

## MM3Z10VST1G
designator D*  Vz: 10V
DIODE ZENER 10V 200MW SOD323; Manufacturer PartNum: MM3Z10VST1G; Manufacturer: ON Semi; Digikey ref: MM3Z10VST1GOSCT-ND
footprint SOD323 (SOD323F 1.8x1.35mm, total legth 2.7mm, lead width 0.4mm)
pins: 1, 2

## MM3Z10VT1G
designator D*
Zener diode, 10V, sod-323; Digikey ref: MM3Z10VT1GOSCT-ND; Farnell ref: 1431190
footprint SOD323 (SOD323F 1.8x1.35mm, total legth 2.7mm, lead width 0.4mm)
pins: 1, 2

## MMA8653FC
designator U*
Farnell ref: *; Digikey ref: MMA8653FCR1CT-ND
footprint LGA16 (LGA16 ST MEMS inertial sensor)
pins: 1 VDD, 2 SCL, 3 INT1, 4 BYP, 5 INT2, 6 GND, 7 GND, 8 VDDIO, 9 GND, 10 SDA

## MMBT3904
designator T*
Digikey ref: MMBT3904-FDICT-ND
footprint SOT23 (SOT23, 2.9x1.3mm, 3 leads)
pins: 1 B, 2 E, 3 C

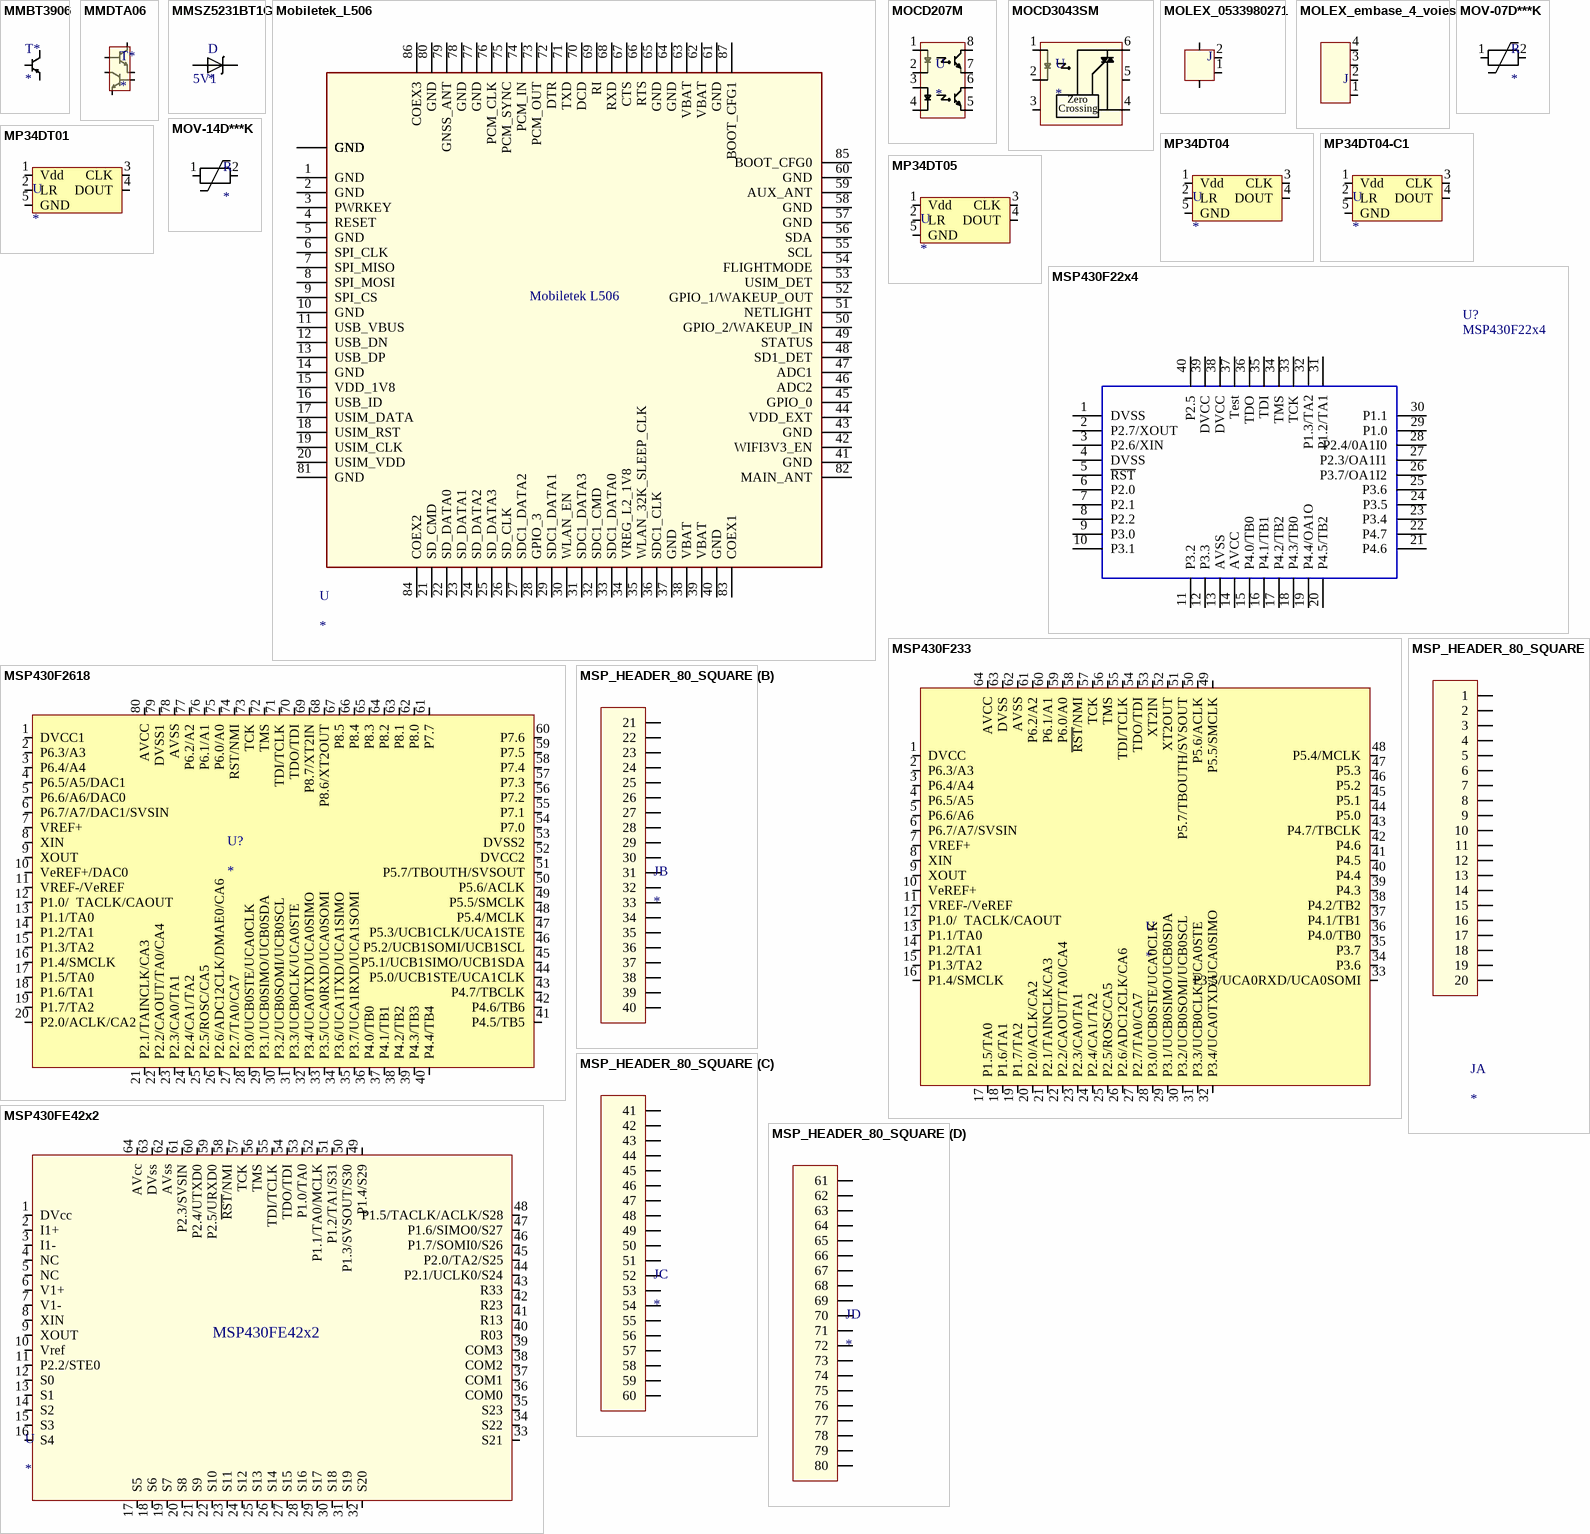
[diagram p7: symbols MMBT3906 to MSP_HEADER_80_SQUARE]

## MMBT3906
designator T*
TRANS PNP 40V 0.2A SOT23-3; Manufacturer: Diodes Inc; Manufacturer PartNum: MMBT3906-7-F; ICmax: 200mA; Pmax: 300mW; Digikey ref: MMBT3906-FDICT-ND; VCEmax: 40V
footprint SOT23 (SOT23, 2.9x1.3mm, 3 leads)
pins: 1 B, 2 E, 3 C

## MMDTA06
designator T*
Digikey ref: MMDTA06-7DICT-ND; Farnell ref: *
footprint SOT23-6 (SOT23, 6 leads, pitch 0.95, 1.55x2.9mm)
pins: 1 B1, 2 E2, 3 B2, 4 C2, 5 E1, 6 C1

## MMSZ5231BT1G
designator D  Vz: 5V1
DIODE ZENER 5.1V 500MW SOD123; Manufacturer PartNum: MMSZ5231BT1G; Manufacturer: ON Semi; Alternate PN: ON Semi MMSZ5231BT3G; Digikey ref: MMSZ5231BT1GOSCT-ND
footprint SOD123 (SOD123 2.6x1.6mm, total legth 3.5mm, lead width 0.5mm)
pins: 1, 2

## Mobiletek_L506
designator U
Mobiletek LTE/3G/2G LCC module; Manufacturer PartNum: L506; Manufacturer: Mobiletek
footprint Mobiletek_L506 (L506 cellular module, LCC package, 30x30x2.8mm)
pins: 1 GND, 2 GND, 3 PWRKEY, 4 RESET, 5 GND, 6 SPI_CLK, 7 SPI_MISO, 8 SPI_MOSI, 9 SPI_CS, 10 GND, 11 USB_VBUS, 12 USB_DN, 13 USB_DP, 14 GND, 15 VDD_1V8, 16 USB_ID, 17 USIM_DATA, 18 USIM_RST, 19 USIM_CLK, 20 USIM_VDD, 21 SD_CMD, 22 SD_DATA0, 23 SD_DATA1, 24 SD_DATA2, 25 SD_DATA3, 26 SD_CLK, 27 SDC1_DATA2, 28 GPIO_3, 29 SDC1_DATA1, 30 WLAN_EN, 31 SDC1_DATA3, 32 SDC1_CMD, 33 SDC1_DATA0, 34 VREG_L2_1V8, 35 WLAN_32K_SLEEP_CLK, 36 SDC1_CLK, 37 GND, 38 VBAT, 39 VBAT, 40 GND, 41 GND, 42 WIFI3V3_EN, 43 GND, 44 VDD_EXT, 45 GPIO_0, 46 ADC2, 47 ADC1, 48 SD1_DET, 49 STATUS, 50 GPIO_2/WAKEUP_IN, 51 NETLIGHT, 52 GPIO_1/WAKEUP_OUT, 53 USIM_DET, 54 FLIGHTMODE, 55 SCL, 56 SDA, 57 GND, 58 GND, 59 AUX_ANT, 60 GND, 61 GND, 62 VBAT, 63 VBAT, 64 GND, 65 GND, 66 RTS, 67 CTS, 68 RXD, 69 RI, 70 DCD, 71 TXD, 72 DTR, 73 PCM_OUT, 74 PCM_IN, 75 PCM_SYNC, 76 PCM_CLK, 77 GND, 78 GND, 79 GNSS_ANT, 80 GND, 81 GND, 82 MAIN_ANT, 83 COEX1, 84 COEX2, 85 BOOT_CFG0, 86 COEX3, 87 BOOT_CFG1, 88 GND, 89 GND, 90 GND, 91 GND, 92 GND, 93 GND, 94 GND, 95 GND, 96 GND, 97 GND, 98 GND, 99 GND
text: Mobiletek L506

## MOCD207M
designator U
8-pin SOIC Dual-Channel Phototransistor Output Optocoupler; Digikey ref: MOCD207M-ND
footprint soic8_HIGH (soic8 CMS 8 leads, pitch 1.27mm, case height 3.63mm)
pins: 1 IA1, 2 IC1, 3 IA2, 4 IC2, 5 OE2, 6 OC2, 7 OE1, 8 OC1

## MOCD3043SM
designator U
OPTOISOLATOR 4.17KV TRIAC 6SMD; Manufacturer PartNum: MOC3043SM; Manufacturer: Fairchild Semi; Digikey ref: MOC3043SM-ND
footprint SMT6_LeadBent (Optocoupler, SMD non standard package, case 6.5x8.5*3.5mm)
pins: 1 A, 2 C, 3 NC, 4 MT, 5 NC, 6 MT
text: Zero; Crossing

## MOLEX_0533980271
designator J  (value not drawn)
CONN HEADER 2POS 1.25MM VERT SMD; Manufacturer PartNum: 0533980271; Manufacturer: Molex; Digikey ref: WM7606CT-ND
footprint MOLEX_053398-0271 (CONN HEADER 2POS 1.25MM VERT SMD)
pins: 1, 2, M1 M, M2 M

## MOLEX_embase_4_voies
designator J  (value not drawn)
53047-0410 MOLEX; Farnell ref: 9733060
footprint MOLEX53047-0410 (EMBASE DROITE 4 VOIES)
pins: 1, 2, 3, 4

## MOV-07D***K
designator R
VARISTOR 504V 1.2KA DISC 7MM; Manufacturer PartNum: MOV-07D561K; Manufacturer: Bourns Inc.; Digikey ref: MOV-07D561K-ND
footprint MOV07DxxxK (BOURNS  07mm nominal diameter leaded metal oxide varistor)
pins: 1, 2

## MOV-14D***K
designator R
VARISTOR  DISC 14MM; Manufacturer PartNum: MOV-14D561KTR; Manufacturer: Bourns Inc.; max continuous AC voltage: 350V; Digikey ref: MOV-14D561KTRCT-ND
footprint MOV07DxxxK (BOURNS  07mm nominal diameter leaded metal oxide varistor)
footprint MOV14DxxxK (BOURNS  14mm nominal diameter leaded metal oxide varistor)
pins: 1, 2

## MP34DT01
designator U
Digikey ref: 497-12016-1-ND; Farnell ref: *
footprint HCLGA (ST Mems Audio 3x4x1mm 4-lead package)
pins: 1 Vdd, 2 LR, 3 CLK, 4 DOUT, 5 GND

## MP34DT04
designator U
MEMS AUD MIC SENSOR OMNI 4HCLGA; Manufacturer PartNum: MP34DT04TR; Manufacturer: STMicroelectronics; Digikey ref: 497-15703-1-ND; Farnell ref: *
footprint HCLGA (ST Mems Audio 3x4x1mm 4-lead package)
pins: 1 Vdd, 2 LR, 3 CLK, 4 DOUT, 5 GND

## MP34DT04-C1
designator U
MEMS audio sensor omnidigital micro 4HCLGA; Manufacturer PartNum: MP34DT04-C1; Manufacturer: STMicroelectronics; Farnell ref: *
footprint HCLGA (ST Mems Audio 3x4x1mm 4-lead package)
pins: 1 Vdd, 2 LR, 3 CLK, 4 DOUT, 5 GND

## MP34DT05
designator U
MEMS audio sensor omnidigital micro 4HCLGA; Manufacturer PartNum: MP34DT05TR; Manufacturer: STMicroelectronics; Digikey ref: 497-17049-1-ND; Farnell ref: *
footprint HCLGA (ST Mems Audio 3x4x1mm 4-lead package)
pins: 1 Vdd, 2 LR, 3 CLK, 4 DOUT, 5 GND

## MSP430F22x4
designator U?
uC; Suggested ordering number: MSP430F2234IRHAT; Tolerance: *; Voltage: *
footprint MSP430F22x4QFN40N (QFN, 40-Leads, Body 6.2x6.2mm (max), Pitch 0.50mm, IPC Medium Density)
pins: 1 DVSS, 2 P2.7/XOUT, 3 P2.6/XIN, 4 DVSS, 5 ~{RST}, 6 P2.0, 7 P2.1, 8 P2.2, 9 P3.0, 10 P3.1, 11 P3.2, 12 P3.3, 13 AVSS, 14 AVCC, 15 P4.0/TB0, 16 P4.1/TB1, 17 P4.2/TB2, 18 P4.3/TB0, 19 P4.4/OA1O, 20 P4.5/TB2, 21 P4.6, 22 P4.7, 23 P3.4, 24 P3.5, 25 P3.6, 26 P3.7/OA1I2, 27 P2.3/OA1I1, 28 P2.4/0A1I0, 29 P1.0, 30 P1.1, 31 P1.2/TA1, 32 P1.3/TA2, 33 TCK, 34 TMS, 35 TDI, 36 TDO, 37 Test, 38 DVCC, 39 DVCC, 40 P2.5

## MSP430F233
designator U
Farnell ref: 1649428
footprint PQFP-64 (64 leads, Pitch 0.5mm, case 10x10mm, Low Density)
pins: 1 DVCC, 2 P6.3/A3, 3 P6.4/A4, 4 P6.5/A5, 5 P6.6/A6, 6 P6.7/A7/SVSIN, 7 VREF+, 8 XIN, 9 XOUT, 10 VeREF+, 11 VREF-/VeREF, 12 P1.0/  TACLK/CAOUT, 13 P1.1/TA0, 14 P1.2/TA1, 15 P1.3/TA2, 16 P1.4/SMCLK, 17 P1.5/TA0, 18 P1.6/TA1, 19 P1.7/TA2, 20 P2.0/ACLK/CA2, 21 P2.1/TAINCLK/CA3, 22 P2.2/CAOUT/TA0/CA4, 23 P2.3/CA0/TA1, 24 P2.4/CA1/TA2, 25 P2.5/ROSC/CA5, 26 P2.6/ADC12CLK/CA6, 27 P2.7/TA0/CA7, 28 P3.0/UCB0STE/UCA0CLK, 29 P3.1/UCB0SIMO/UCB0SDA, 30 P3.2/UCB0SOMI/UCB0SCL, 31 P3.3/UCB0CLK/UCA0STE, 32 P3.4/UCA0TXD/UCA0SIMO, 33 P3.5/UCA0RXD/UCA0SOMI, 34 P3.6, 35 P3.7, 36 P4.0/TB0, 37 P4.1/TB1, 38 P4.2/TB2, 39 P4.3, 40 P4.4, 41 P4.5, 42 P4.6, 43 P4.7/TBCLK, 44 P5.0, 45 P5.1, 46 P5.2, 47 P5.3, 48 P5.4/MCLK, 49 P5.5/SMCLK, 50 P5.6/ACLK, 51 P5.7/TBOUTH/SVSOUT, 52 XT2OUT, 53 XT2IN, 54 TDO/TDI, 55 TDI/TCLK, 56 TMS, 57 TCK, 58 ~{RST}/NMI, 59 P6.0/A0, 60 P6.1/A1, 61 P6.2/A2, 62 AVSS, 63 DVSS, 64 AVCC

## MSP430F2618
designator U?
Farnell ref: 1649456
footprint PN080_M (Thin QFP, 80-Leads, Body 12x12mm, Pitch 0.5mm, IPC Low Density)
pins: 1 DVCC1, 2 P6.3/A3, 3 P6.4/A4, 4 P6.5/A5/DAC1, 5 P6.6/A6/DAC0, 6 P6.7/A7/DAC1/SVSIN, 7 VREF+, 8 XIN, 9 XOUT, 10 VeREF+/DAC0, 11 VREF-/VeREF, 12 P1.0/  TACLK/CAOUT, 13 P1.1/TA0, 14 P1.2/TA1, 15 P1.3/TA2, 16 P1.4/SMCLK, 17 P1.5/TA0, 18 P1.6/TA1, 19 P1.7/TA2, 20 P2.0/ACLK/CA2, 21 P2.1/TAINCLK/CA3, 22 P2.2/CAOUT/TA0/CA4, 23 P2.3/CA0/TA1, 24 P2.4/CA1/TA2, 25 P2.5/ROSC/CA5, 26 P2.6/ADC12CLK/DMAE0/CA6, 27 P2.7/TA0/CA7, 28 P3.0/UCB0STE/UCA0CLK, 29 P3.1/UCB0SIMO/UCB0SDA, 30 P3.2/UCB0SOMI/UCB0SCL, 31 P3.3/UCB0CLK/UCA0STE, 32 P3.4/UCA0TXD/UCA0SIMO, 33 P3.5/UCA0RXD/UCA0SOMI, 34 P3.6/UCA1TXD/UCA1SIMO, 35 P3.7/UCA1RXD/UCA1SOMI, 36 P4.0/TB0, 37 P4.1/TB1, 38 P4.2/TB2, 39 P4.3/TB3, 40 P4.4/TB4, 41 P4.5/TB5, 42 P4.6/TB6, 43 P4.7/TBCLK, 44 P5.0/UCB1STE/UCA1CLK, 45 P5.1/UCB1SIMO/UCB1SDA, 46 P5.2/UCB1SOMI/UCB1SCL, 47 P5.3/UCB1CLK/UCA1STE, 48 P5.4/MCLK, 49 P5.5/SMCLK, 50 P5.6/ACLK, 51 P5.7/TBOUTH/SVSOUT, 52 DVCC2, 53 DVSS2, 54 P7.0, 55 P7.1, 56 P7.2, 57 P7.3, 58 P7.4, 59 P7.5, 60 P7.6, 61 P7.7, 62 P8.0, 63 P8.1, 64 P8.2, 65 P8.3, 66 P8.4, 67 P8.5, 68 P8.6/XT2OUT, 69 P8.7/XT2IN, 70 TDO/TDI, 71 TDI/TCLK, 72 TMS, 73 TCK, 74 RST/NMI, 75 P6.0/A0, 76 P6.1/A1, 77 P6.2/A2, 78 AVSS, 79 DVSS1, 80 AVCC

## MSP430FE42x2
designator U
Mouser ref: 595-MSP430FE4272IPM
footprint PQFP-64 (64 leads, Pitch 0.5mm, case 10x10mm, Low Density)
pins: 1 DVcc, 2 I1+, 3 I1-, 4 NC, 5 NC, 6 V1+, 7 V1-, 8 XIN, 9 XOUT, 10 Vref, 11 P2.2/STE0, 12 S0, 13 S1, 14 S2, 15 S3, 16 S4, 17 S5, 18 S6, 19 S7, 20 S8, 21 S9, 22 S10, 23 S11, 24 S12, 25 S13, 26 S14, 27 S15, 28 S16, 29 S17, 30 S18, 31 S19, 32 S20, 33 S21, 34 S22, 35 S23, 36 COM0, 37 COM1, 38 COM2, 39 COM3, 40 R03, 41 R13, 42 R23, 43 R33, 44 P2.1/UCLK0/S24, 45 P2.0/TA2/S25, 46 P1.7/SOMI0/S26, 47 P1.6/SIMO0/S27, 48 P1.5/TACLK/ACLK/S28, 49 P1.4/S29, 50 P1.3/SVSOUT/S30, 51 P1.2/TA1/S31, 52 P1.1/TA0/MCLK, 53 P1.0/TA0, 54 TDO/TDI, 55 TDI/TCLK, 56 TMS, 57 TCK, 58 ~{RST}/NMI, 59 P2.5/URXD0, 60 P2.4/UTXD0, 61 P2.3/SVSIN, 62 AVss, 63 DVss, 64 AVcc

## MSP_HEADER_80_SQUARE
designator J
footprint MSP_HEADER_80_SQUARE_PCB
part A pins: 1, 2, 3, 4, 5, 6, 7, 8, 9, 10, 11, 12, 13, 14, 15, 16, 17, 18, 19, 20
part B pins: 21, 22, 23, 24, 25, 26, 27, 28, 29, 30, 31, 32, 33, 34, 35, 36, 37, 38, 39, 40
part C pins: 41, 42, 43, 44, 45, 46, 47, 48, 49, 50, 51, 52, 53, 54, 55, 56, 57, 58, 59, 60
part D pins: 61, 62, 63, 64, 65, 66, 67, 68, 69, 70, 71, 72, 73, 74, 75, 76, 77, 78, 79, 80

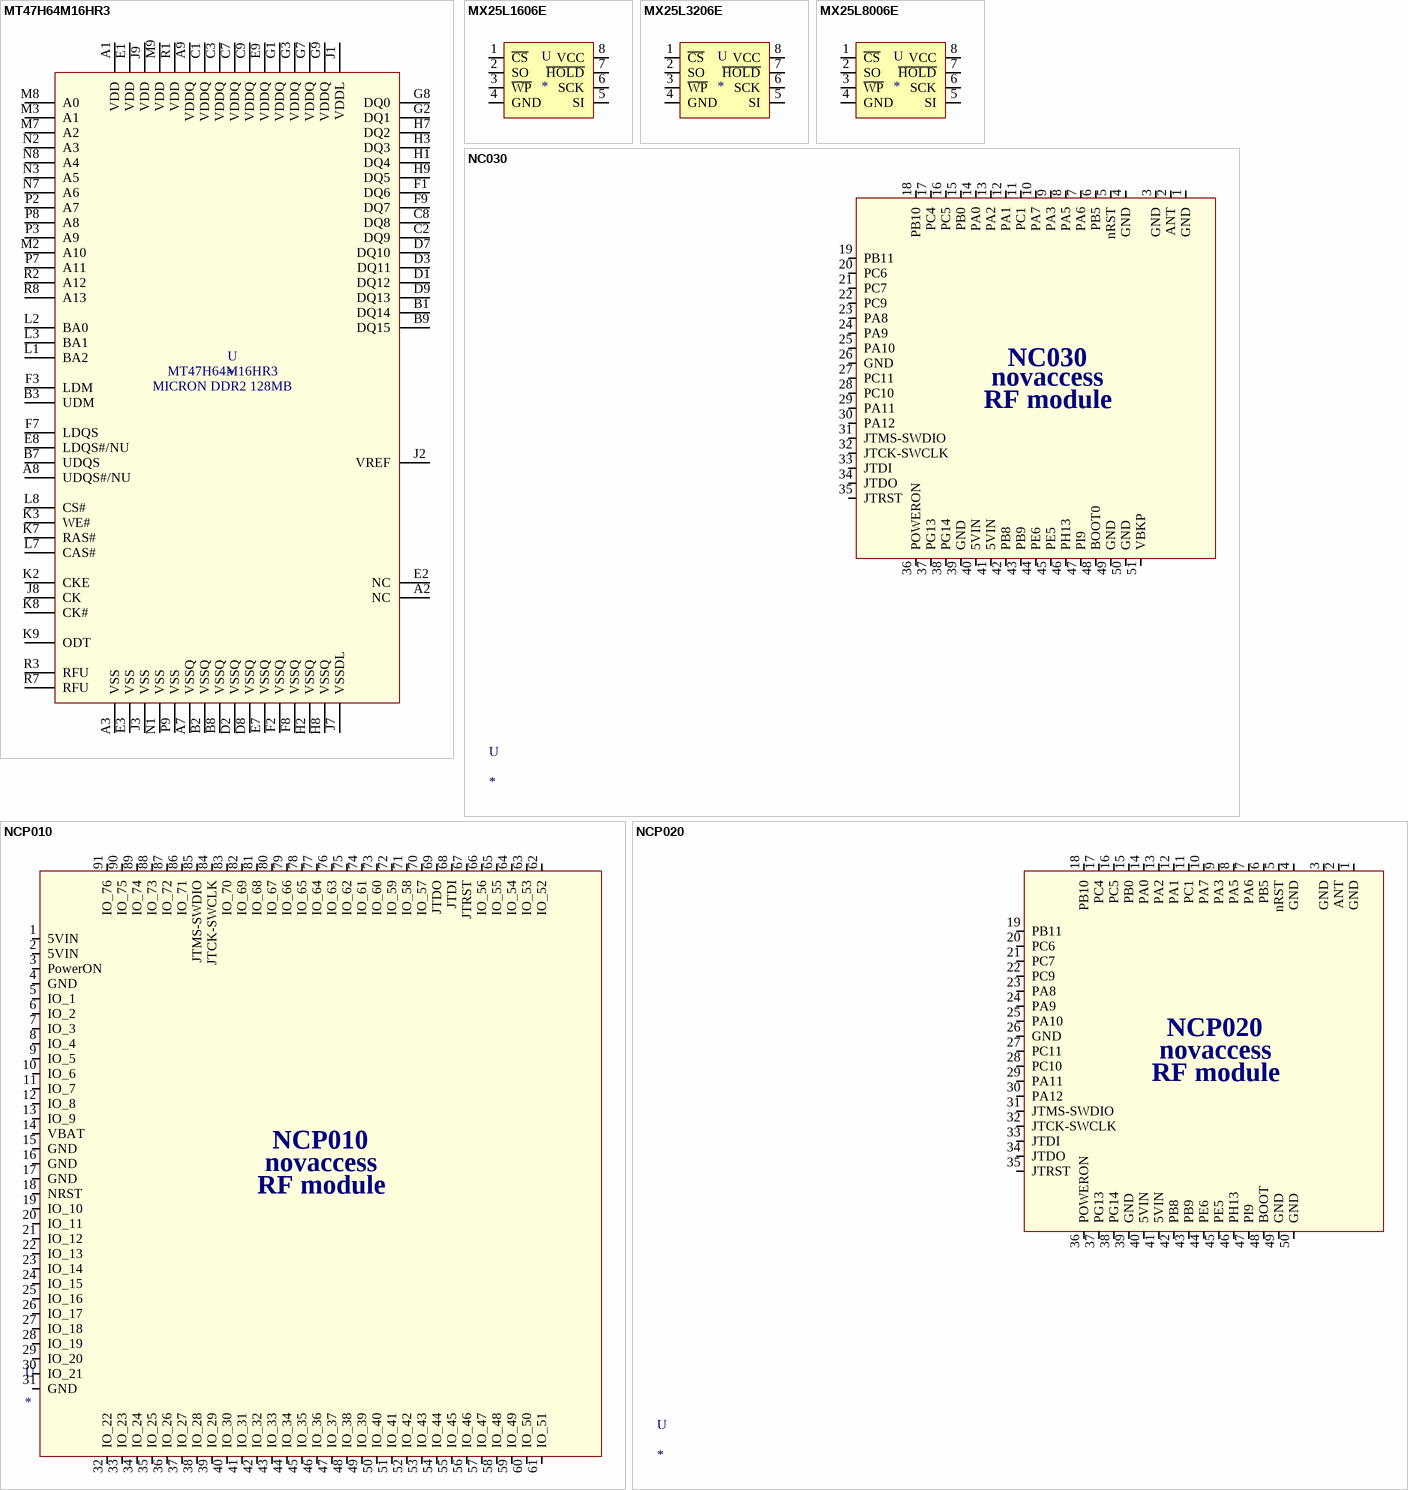
[diagram p8: symbols MT47H64M16HR3 to NCP020]

## MT47H64M16HR3
designator U
Digikey ref: 557-1526-1-ND
footprint FBGA84x16 (84-Ball FBGA Package (8mm x 12.5mm) - x16)
pins: A1 VDD (power) "Power Supply", A2 NC (power) "Power Supply", A3 VSS (power) "Power Supply", A7 VSSQ (power) "Power Supply", A8 UDQS#/NU (power) "Power Supply", A9 VDDQ (power) "Power Supply", B1 DQ14 (power) "Power Supply", B2 VSSQ (power) "Power Supply", B3 UDM (power) "Power Supply", B7 UDQS (power) "Power Supply", B8 VSSQ (power) "Power Supply", B9 DQ15 (power) "Power Supply", C1 VDDQ (power) "Power Supply", C2 DQ9 (power) "Power Supply", C3 VDDQ (power) "Power Supply", C7 VDDQ (power) "Power Supply", C8 DQ8 (power) "Power Supply", C9 VDDQ (power) "Power Supply", D1 DQ12 (power) "Power Supply", D2 VSSQ (power) "Power Supply", D3 DQ11 (power) "Power Supply", D7 DQ10 (power) "Power Supply", D8 VSSQ (power) "Power Supply", D9 DQ13 (power) "Power Supply", E1 VDD (power) "Power Supply", E2 NC (power) "Power Supply", E3 VSS (power) "Power Supply", E7 VSSQ (power) "Power Supply", E8 LDQS#/NU (power) "Power Supply", E9 VDDQ (power) "Power Supply", F1 DQ6 (power) "Power Supply", F2 VSSQ (power) "Power Supply", F3 LDM (power) "Power Supply", F7 LDQS (power) "Power Supply", F8 VSSQ (power) "Power Supply", F9 DQ7 (power) "Power Supply", G1 VDDQ (power) "Power Supply", G2 DQ1 (power) "Power Supply", G3 VDDQ (power) "Power Supply", G7 VDDQ (power) "Power Supply", G8 DQ0 (power) "Power Supply", G9 VDDQ (power) "Power Supply", H1 DQ4 (power) "Power Supply", H2 VSSQ (power) "Power Supply", H3 DQ3 (power) "Power Supply", H7 DQ2 (power) "Power Supply", H8 VSSQ (power) "Power Supply", H9 DQ5 (power) "Power Supply", J1 VDDL (power) "Power Supply", J2 VREF (power) "Power Supply", J3 VSS (power) "Power Supply", J7 VSSDL (power) "Power Supply", J8 CK (power) "Power Supply", J9 VDD (power) "Power Supply", K2 CKE (power) "Power Supply", K3 WE# (power) "Power Supply", K7 RAS# (power) "Power Supply", K8 CK# (power) "Power Supply", K9 ODT (power) "Power Supply", L1 BA2 (power) "Power Supply", L2 BA0 (power) "Power Supply", L3 BA1 (power) "Power Supply", L7 CAS# (power) "Power Supply", L8 CS# (power) "Power Supply", M2 A10 (power) "Power Supply", M3 A1 (power) "Power Supply", M7 A2 (power) "Power Supply", M8 A0 (power) "Power Supply", M9 VDD (power) "Power Supply", N1 VSS (power) "Power Supply", N2 A3 (power) "Power Supply", N3 A5 (power) "Power Supply", N7 A6 (power) "Power Supply", N8 A4 (power) "Power Supply", P2 A7 (power) "Power Supply", P3 A9 (power) "Power Supply", P7 A11 (power) "Power Supply", P8 A8 (power) "Power Supply", P9 VSS (power) "Power Supply", R1 VDD (power) "Power Supply", R2 A12 (power) "Power Supply", R3 RFU (power) "Power Supply", R7 RFU (power) "Power Supply", R8 A13 (power) "Power Supply"
text: MICRON DDR2 128MB

## MX25L1606E
designator U
16M-BIT [x 1 / x 2] CMOS SERIAL FLASH, 4KB Sector Erase; Note1: Leave thermal pad floating; Farnell ref: *; Digikey ref: 1092-1056-ND
footprint USON_8L (USON 8L 4x4x0.6mm, LEAD PITCH 0.8MM)
pins: 1 ~{CS}, 2 SO, 3 ~{WP}, 4 GND, 5 SI, 6 SCK, 7 ~{HOLD}, 8 VCC, 9 PAD hidden

## MX25L3206E
designator U
32M-BIT [x 1 / x 2] CMOS SERIAL FLASH, 4KB Sector Erase; Note1: Leave thermal pad floating; Farnell ref: *; Digikey ref: 1092-1058-ND
footprint USON_8L (USON 8L 4x4x0.6mm, LEAD PITCH 0.8MM)
pins: 1 ~{CS}, 2 SO, 3 ~{WP}, 4 GND, 5 SI, 6 SCK, 7 ~{HOLD}, 8 VCC, 9 PAD hidden

## MX25L8006E
designator U
8M-BIT [x 1 / x 2] CMOS SERIAL FLASH, 4KB Sector Erase; Note1: Leave thermal pad floating; Farnell ref: *; Digikey ref: 1092-1055-ND
footprint USON_8L (USON 8L 4x4x0.6mm, LEAD PITCH 0.8MM)
pins: 1 ~{CS}, 2 SO, 3 ~{WP}, 4 GND, 5 SI, 6 SCK, 7 ~{HOLD}, 8 VCC, 9 PAD hidden

## NC030
designator U
Manufacturer: Novaccess; Novaccess ref: NC030; note: 1 additionnal pin for battery backup; Digikey ref: *; Farnell ref: *; Manufacturer PartNum: NC030
footprint NC030_PCB (NovaCom3 Power RF SubGHz Module)
pins: 1 GND, 2 ANT, 3 GND, 4 GND, 5 nRST, 6 PB5, 7 PA6, 8 PA5, 9 PA3, 10 PA7, 11 PC1, 12 PA1, 13 PA2, 14 PA0, 15 PB0, 16 PC5, 17 PC4, 18 PB10, 19 PB11, 20 PC6, 21 PC7, 22 PC9, 23 PA8, 24 PA9, 25 PA10, 26 GND, 27 PC11, 28 PC10, 29 PA11, 30 PA12, 31 JTMS-SWDIO, 32 JTCK-SWCLK, 33 JTDI, 34 JTDO, 35 JTRST, 36 POWERON, 37 PG13, 38 PG14, 39 GND, 40 5VIN, 41 5VIN, 42 PB8, 43 PB9, 44 PE6, 45 PE5, 46 PH13, 47 PI9, 48 BOOT0, 49 GND, 50 GND, 51 VBKP
text: novaccess; RF module

## NCP010
designator U
Novaccess ref: NCP010; Digikey ref: *; Farnell ref: *
footprint NovaCom_Module (NovaCom Power RF SubGHz Module)
pins: 1 5VIN, 2 5VIN, 3 PowerON, 4 GND, 5 IO_1, 6 IO_2, 7 IO_3, 8 IO_4, 9 IO_5, 10 IO_6, 11 IO_7, 12 IO_8, 13 IO_9, 14 VBAT, 15 GND, 16 GND, 17 GND, 18 NRST, 19 IO_10, 20 IO_11, 21 IO_12, 22 IO_13, 23 IO_14, 24 IO_15, 25 IO_16, 26 IO_17, 27 IO_18, 28 IO_19, 29 IO_20, 30 IO_21, 31 GND, 32 IO_22, 33 IO_23, 34 IO_24, 35 IO_25, 36 IO_26, 37 IO_27, 38 IO_28, 39 IO_29, 40 IO_30, 41 IO_31, 42 IO_32, 43 IO_33, 44 IO_34, 45 IO_35, 46 IO_36, 47 IO_37, 48 IO_38, 49 IO_39, 50 IO_40, 51 IO_41, 52 IO_42, 53 IO_43, 54 IO_44, 55 IO_45, 56 IO_46, 57 IO_47, 58 IO_48, 59 IO_49, 60 IO_50, 61 IO_51, 62 IO_52, 63 IO_53, 64 IO_54, 65 IO_55, 66 IO_56, 67 JTRST, 68 JTDI, 69 JTDO, 70 IO_57, 71 IO_58, 72 IO_59, 73 IO_60, 74 IO_61, 75 IO_62, 76 IO_63, 77 IO_64, 78 IO_65, 79 IO_66, 80 IO_67, 81 IO_68, 82 IO_69, 83 IO_70, 84 JTCK-SWCLK, 85 JTMS-SWDIO, 86 IO_71, 87 IO_72, 88 IO_73, 89 IO_74, 90 IO_75, 91 IO_76
text: novaccess; RF module

## NCP020
designator U
Novaccess ref: NCP020; Digikey ref: *; Farnell ref: *
footprint NCP020_PCB (NovaCom2 Power RF SubGHz Module)
pins: 1 GND, 2 ANT, 3 GND, 4 GND, 5 nRST, 6 PB5, 7 PA6, 8 PA5, 9 PA3, 10 PA7, 11 PC1, 12 PA1, 13 PA2, 14 PA0, 15 PB0, 16 PC5, 17 PC4, 18 PB10, 19 PB11, 20 PC6, 21 PC7, 22 PC9, 23 PA8, 24 PA9, 25 PA10, 26 GND, 27 PC11, 28 PC10, 29 PA11, 30 PA12, 31 JTMS-SWDIO, 32 JTCK-SWCLK, 33 JTDI, 34 JTDO, 35 JTRST, 36 POWERON, 37 PG13, 38 PG14, 39 GND, 40 5VIN, 41 5VIN, 42 PB8, 43 PB9, 44 PE6, 45 PE5, 46 PH13, 47 PI9, 48 BOOT, 49 GND, 50 GND
text: novaccess; RF module

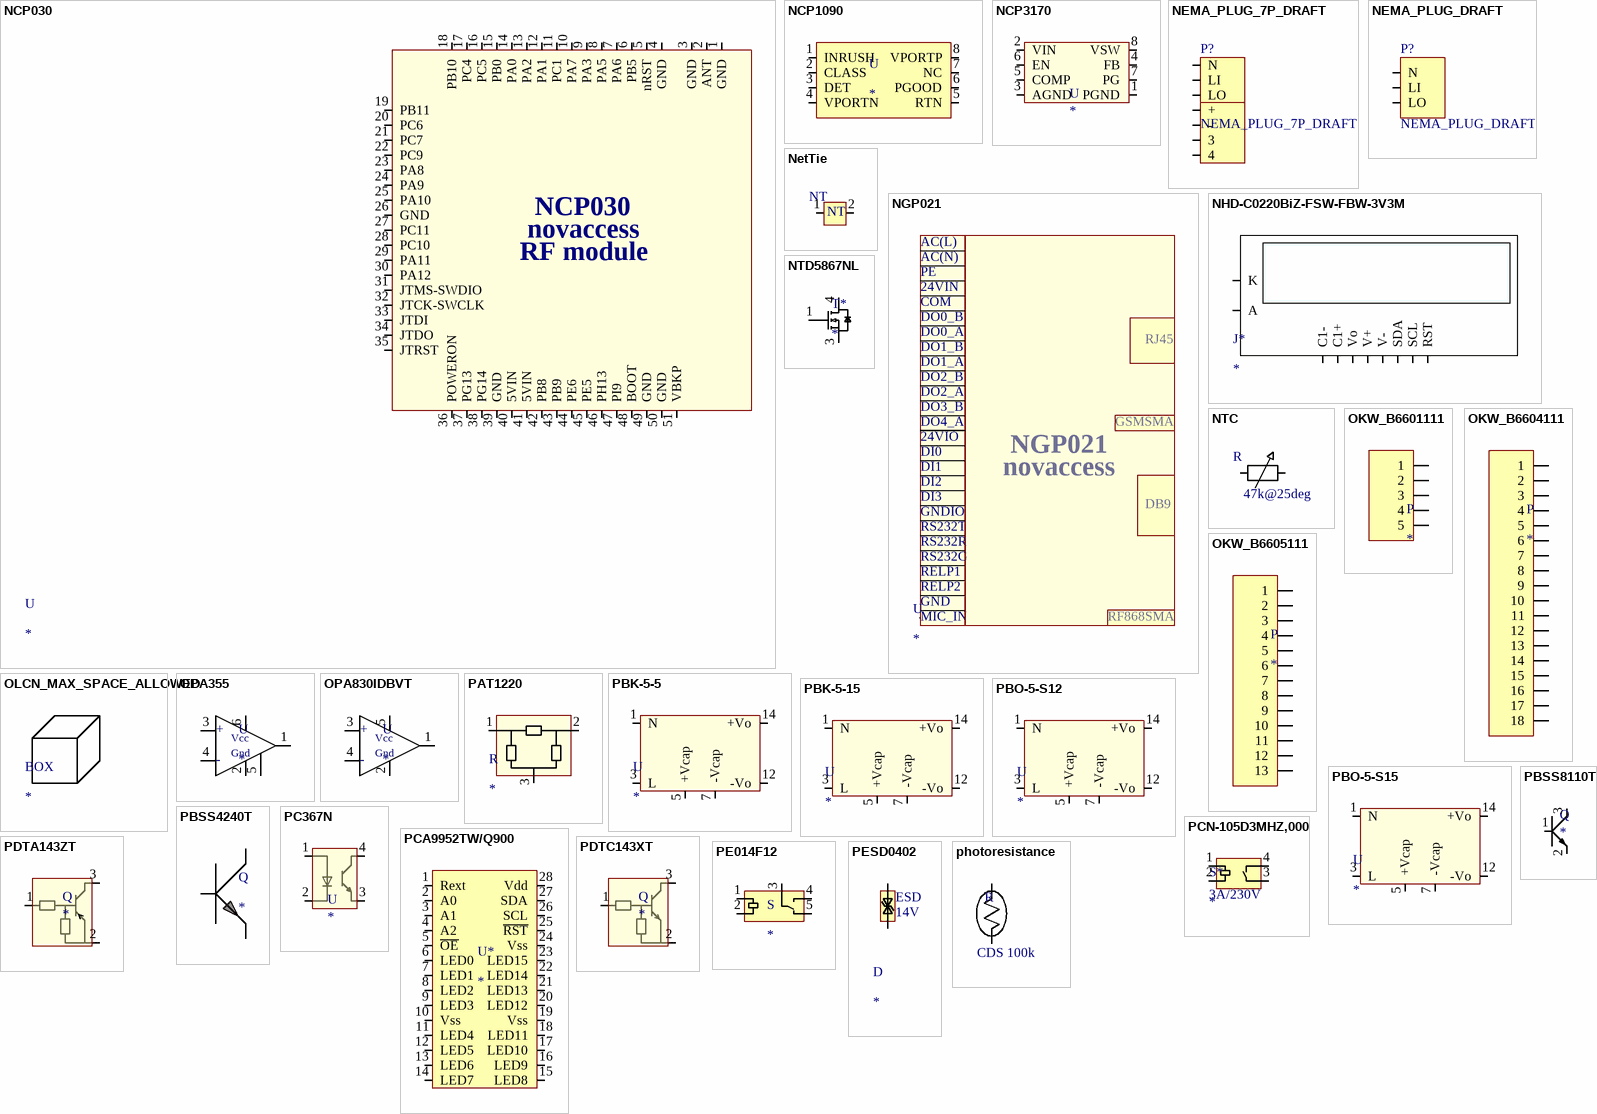
[diagram p9: symbols NCP030 to photoresistance]

## NCP030
designator U
Novaccess ref: NCP030; note: 1 additionnal pin for battery backup; Digikey ref: *; Farnell ref: *
footprint NCP030_PCB (NovaCom3 Power RF SubGHz Module)
pins: 1 GND, 2 ANT, 3 GND, 4 GND, 5 nRST, 6 PB5, 7 PA6, 8 PA5, 9 PA3, 10 PA7, 11 PC1, 12 PA1, 13 PA2, 14 PA0, 15 PB0, 16 PC5, 17 PC4, 18 PB10, 19 PB11, 20 PC6, 21 PC7, 22 PC9, 23 PA8, 24 PA9, 25 PA10, 26 GND, 27 PC11, 28 PC10, 29 PA11, 30 PA12, 31 JTMS-SWDIO, 32 JTCK-SWCLK, 33 JTDI, 34 JTDO, 35 JTRST, 36 POWERON, 37 PG13, 38 PG14, 39 GND, 40 5VIN, 41 5VIN, 42 PB8, 43 PB9, 44 PE6, 45 PE5, 46 PH13, 47 PI9, 48 BOOT, 49 GND, 50 GND, 51 VBKP
text: novaccess; RF module

## NCP1090
designator U
PoE-PD controller; Digikey ref: NCP1090DGOS-ND; Farnell ref: 1901642; status: *
footprint soic8 (soic8 CMS 8 leads, pitch 1.27mm)
pins: 1 INRUSH, 2 CLASS, 3 DET, 4 VPORTN, 5 RTN, 6 PGOOD, 7 NC, 8 VPORTP

## NCP3170
designator U
Farnell ref: 1924872; Digikey ref: NCP3170ADR2GOSCT-ND
footprint soic8 (soic8 CMS 8 leads, pitch 1.27mm)
pins: 1 PGND, 2 VIN, 3 AGND, 4 FB, 5 COMP, 6 EN, 7 PG, 8 VSW

## NEMA_PLUG_7P_DRAFT
designator P?
Header, 3-Pin
footprint NEMAPLUG7P_draft (AN C136.10 locking-type plug, 7 poles)
pins: 3, 4, +, -, LI, LO, N

## NEMA_PLUG_DRAFT
designator P?  (no BOM)
Header, 3-Pin
footprint NEMAPLUG_draft (AN C136.10 locking-type plug)
footprint NEMAPLUG_Wire (Wire version of the NEMA plug)
pins: LI, LO, N

## NetTie
designator NT  (value not drawn)  (net tie, no BOM)
footprint NetTie (Simple Net Tie, 2 pads shorted)
pins: 1, 2

## NGP021
designator U  (graphical)
Manufacturer: Novaccess; Novaccess ref: NGP021; Digikey ref: *; Farnell ref: *; Manufacturer PartNum: NGP021
pins: 1
text: AC(L); AC(N); PE; 24VIN; COM; DO0_B; DO0_A; RJ45; DO1_B; DO1_A; DO2_B; DO2_A; DO3_B; DO4_A; GSMSMA; 24VIO; DI0; DI1; novaccess; DI2; DI3; DB9; GNDIO; RS232T; RS232R; RS232G; RELP1; RELP2; GND; MIC_IN; RF868SMA

## NHD-C0220BiZ-FSW-FBW-3V3M
designator J*
Digikey ref: NHD-C0220BIZ-FSW-FBW-3V3M-ND; Farnell ref: *; status: *
footprint NHD-C0220BiZ-FSW-FBW-3V3M (Newhaven Display COG I2C LCD, 2x20)
pins: 1 RST, 2 SCL, 3 SDA, 4 V-, 5 V+, 6 Vo, 7 C1+, 8 C1-, 9 A, 10 K

## NTC
designator R  value 47k@25deg  (hidden comment: *)
variable resistor; Farnell ref: 2103183
footprint 0402 (SMD 0402 package, 0.6x1.5mm)
footprint 0603c (standard 0603 FP)
footprint 1206 (1206 1.6x3.2mm)
footprint 0805 (standard 0805 FP)
pins: 1, 2

## NTD5867NL
designator T*
Digikey ref: NTD5867NLT4GOSCT-ND
footprint DPAK (DPAK Single Guage)
pins: 1 G, 3 S, 4 D

## OKW_B6601111
designator P
OKW ref: B6601111
footprint OKW_B6601111 (OKW Terminal block, pitch 5mm, 5-pin, suited for RAILTEC B, 2 modules, Vers.1 (B6501114))
pins: 1, 2, 3, 4, 5

## OKW_B6604111
designator P
OKW ref: B6604111
footprint OKW_B6604111 (OKW Terminal block, pitch 5mm, 5-pin, suited for RAILTEC B, 2 modules, Vers.1 (B6504114))
pins: 1, 2, 3, 4, 5, 6, 7, 8, 9, 10, 11, 12, 13, 14, 15, 16, 17, 18

## OKW_B6605111
designator P
OKW ref: B6605111
footprint OKW_B6605111 (OKW Terminal block, pitch 5mm, 5-pin, suited for RAILTEC B, 2 modules, Vers.IV (B6505114))
pins: 1, 2, 3, 4, 5, 6, 7, 8, 9, 10, 11, 12, 13

## OLCN_MAX_SPACE_ALLOWED
designator BOX  (no BOM)
footprint OLCN_MAX_SPACE_ALLOWED (Actis Datta sketch)

## OPA355
designator U
OPA355; Farnell ref: 1234944
footprint SOT23-6 (SOT23, 6 leads, pitch 0.95, 1.55x2.9mm)
simulation model Model Name (Model Description)
pins: 1, 2, 3, 4, 5 En, 6
text: +; Vcc; Gnd; -

## OPA830IDBVT
designator U
OPA830IDBVT; Farnell ref: 1755003; Datasheet: http://focus.ti.com/docs/prod/folders/print/opa830.html
footprint SOT23-5 (SOT23, 5 pins, pitch 0.95mm, case 3x1.6mm)
pins: 1, 2, 3, 4, 5
text: +; Vcc; Gnd; -

## PAT1220
designator R
RF Attenuator 10dB ±0.3dB 0 ~ 10GHz 50 Ohm 100mW 0805 (2012 Metric); Manufacturer: Susumu; Manufacturer PartNum: PAT1220-C-10DB-T5; Digikey ref: PAT1210CT-ND
footprint ATT0805_ (Precision chip attenuators in 0805 package size)
pins: 1 IN, 2 OUT, 3 GND

## PBK-5-5
designator U
AC/DC CONVERTER 5V 5W; Manufacturer: CUI Inc; Manufacturer PartNum: PBK-5-5; Digikey ref: 102-3112-ND; Farnell ref: *
footprint pbk-5 (CUI Inc AC-DC Power supply, 42x11x27mm)
pins: 1 N, 3 L, 5 +Vcap, 7 -Vcap, 12 -Vo, 14 +Vo

## PBK-5-15
designator U
Digikey ref: 102-3115-ND; Farnell ref: *
footprint PBK-5 (CUI Inc AC-DC Power supply, 42x11x27mm)
pins: 1 N, 3 L, 5 +Vcap, 7 -Vcap, 12 -Vo, 14 +Vo